# Altium schematic symbol library SCH-46368_A3_Library.SchLib: 79 symbols
Pins are listed as number, name and electrical type; pins without a type are passive.

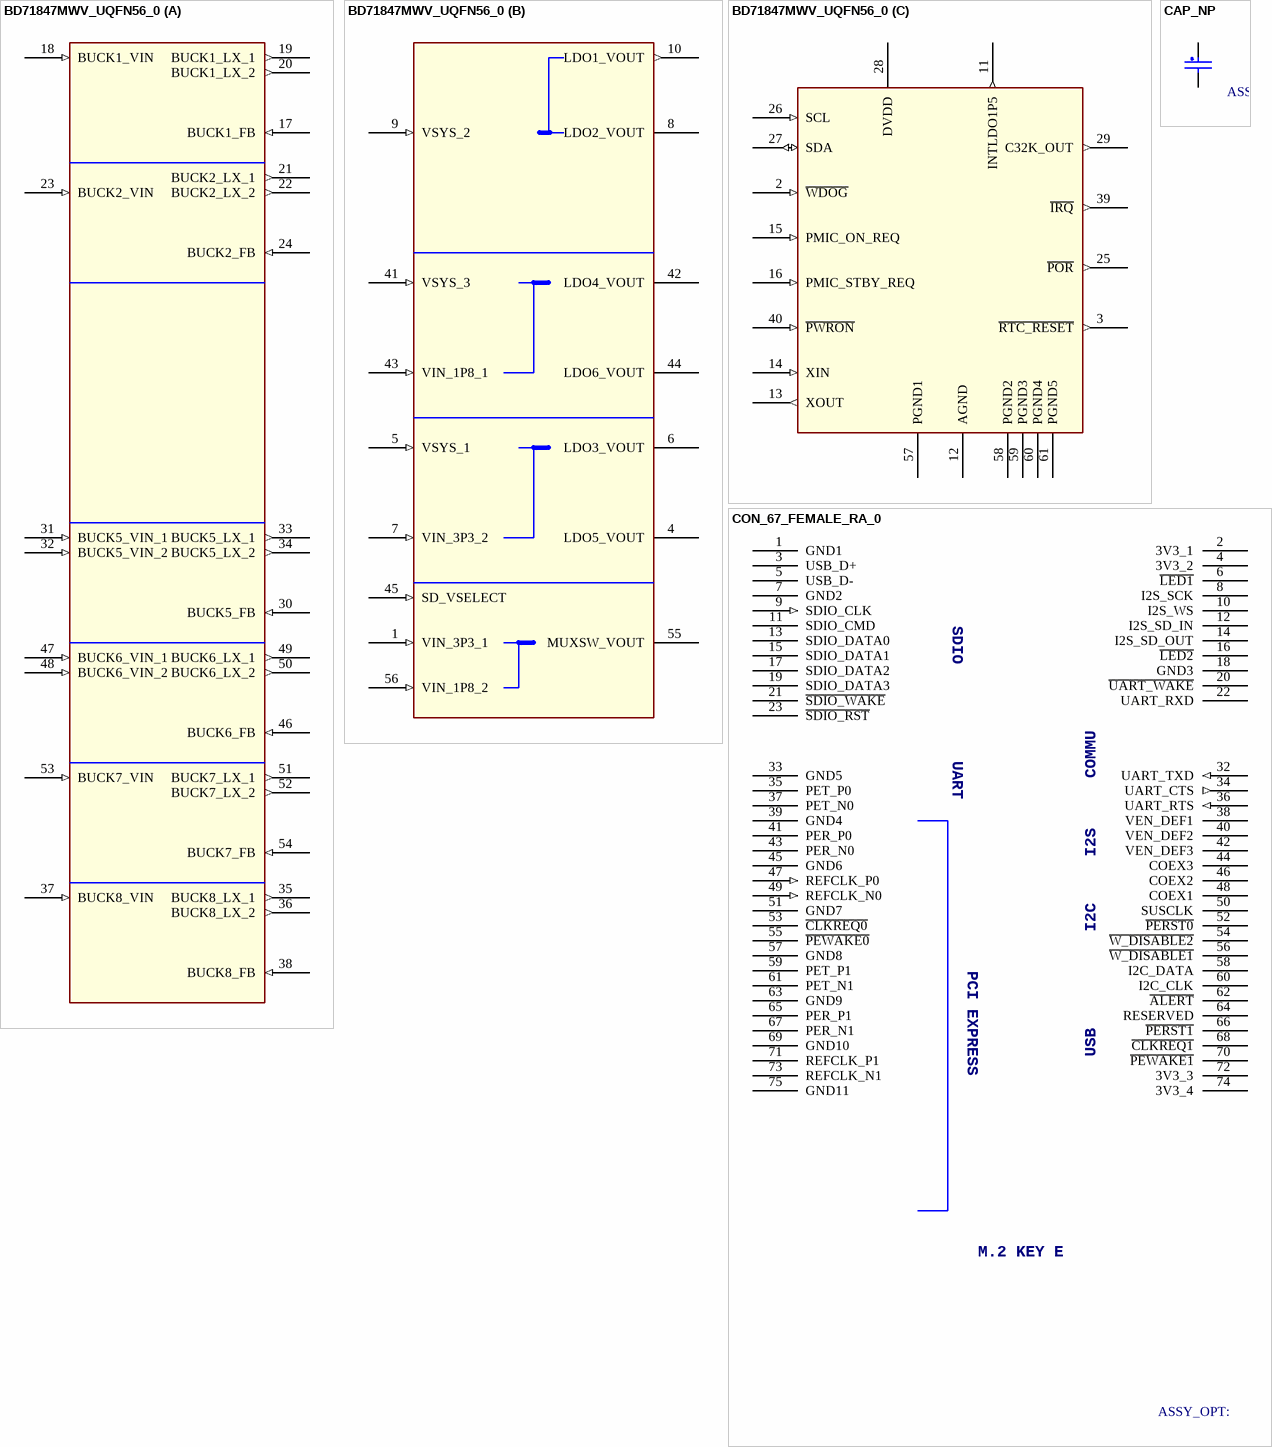
[diagram p0: symbols BD71847MWV_UQFN56_0 to CON_67_FEMALE_RA_0]

## BD71847MWV_UQFN56_0
designator U?
CLASS: IC
footprint BD71837MWV
part A pins: 17 BUCK1_FB (in), 18 BUCK1_VIN (in), 19 BUCK1_LX_1 (out), 20 BUCK1_LX_2 (out), 21 BUCK2_LX_1 (out), 22 BUCK2_LX_2 (out), 23 BUCK2_VIN (in), 24 BUCK2_FB (in), 30 BUCK5_FB (in), 31 BUCK5_VIN_1 (in), 32 BUCK5_VIN_2 (in), 33 BUCK5_LX_1 (out), 34 BUCK5_LX_2 (out), 35 BUCK8_LX_1 (out), 36 BUCK8_LX_2 (out), 37 BUCK8_VIN (in), 38 BUCK8_FB (in), 46 BUCK6_FB (in), 47 BUCK6_VIN_1 (in), 48 BUCK6_VIN_2 (in), 49 BUCK6_LX_1 (out), 50 BUCK6_LX_2 (out), 51 BUCK7_LX_1 (out), 52 BUCK7_LX_2 (out), 53 BUCK7_VIN (in), 54 BUCK7_FB (in)
part B pins: 1 VIN_3P3_1 (in), 4 LDO5_VOUT (power), 5 VSYS_1 (in), 6 LDO3_VOUT (power), 7 VIN_3P3_2 (in), 8 LDO2_VOUT (power), 9 VSYS_2 (in), 10 LDO1_VOUT (out), 41 VSYS_3 (in), 42 LDO4_VOUT (power), 43 VIN_1P8_1 (in), 44 LDO6_VOUT (power), 45 SD_VSELECT (in), 55 MUXSW_VOUT (power), 56 VIN_1P8_2 (in)
part C pins: 2 ~{WDOG} (in), 3 ~{RTC_RESET} (out), 11 INTLDO1P5 (out), 12 AGND (power), 13 XOUT (out), 14 XIN (in), 15 PMIC_ON_REQ (in), 16 PMIC_STBY_REQ (in), 25 ~{POR} (out), 26 SCL (in), 27 SDA (io), 28 DVDD (power), 29 C32K_OUT (out), 39 ~{IRQ} (out), 40 ~{PWRON} (in), 57 PGND1 (power), 58 PGND2 (power), 59 PGND3 (power), 60 PGND4 (power), 61 PGND5 (power)

## CAP_NP
designator C?
CLASS: DISCRETE
pins: 1, 2

## CON_67_FEMALE_RA_0
designator J?
CLASS: IO
pins: 1 GND1 (power), 2 3V3_1 (power), 3 USB_D+, 4 3V3_2 (power), 5 USB_D-, 6 ~{LED1}, 7 GND2 (power), 8 I2S_SCK, 9 SDIO_CLK (in), 10 I2S_WS, 11 SDIO_CMD, 12 I2S_SD_IN, 13 SDIO_DATA0, 14 I2S_SD_OUT, 15 SDIO_DATA1, 16 ~{LED2}, 17 SDIO_DATA2, 18 GND3 (power), 19 SDIO_DATA3, 20 ~{UART_WAKE}, 21 ~{SDIO_WAKE}, 22 UART_RXD, 23 ~{SDIO_RST}, 32 UART_TXD (in), 33 GND5 (power), 34 UART_CTS (out), 35 PET_P0, 36 UART_RTS (in), 37 PET_N0, 38 VEN_DEF1, 39 GND4 (power), 40 VEN_DEF2, 41 PER_P0, 42 VEN_DEF3, 43 PER_N0, 44 COEX3, 45 GND6 (power), 46 COEX2, 47 REFCLK_P0 (in), 48 COEX1, 49 REFCLK_N0 (in), 50 SUSCLK, 51 GND7 (power), 52 ~{PERST0}, 53 ~{CLKREQ0}, 54 ~{W_DISABLE2}, 55 ~{PEWAKE0}, 56 ~{W_DISABLE1}, 57 GND8 (power), 58 I2C_DATA, 59 PET_P1, 60 I2C_CLK, 61 PET_N1, 62 ~{ALERT}, 63 GND9 (power), 64 RESERVED, 65 PER_P1, 66 ~{PERST1}, 67 PER_N1, 68 ~{CLKREQ1}, 69 GND10 (power), 70 ~{PEWAKE1}, 71 REFCLK_P1, 72 3V3_3 (power), 73 REFCLK_N1, 74 3V3_4 (power), 75 GND11 (power)
text: SDIO; UART; COMMU; I2S; I2C; PCI EXPRESS; USB; M.2 KEY E

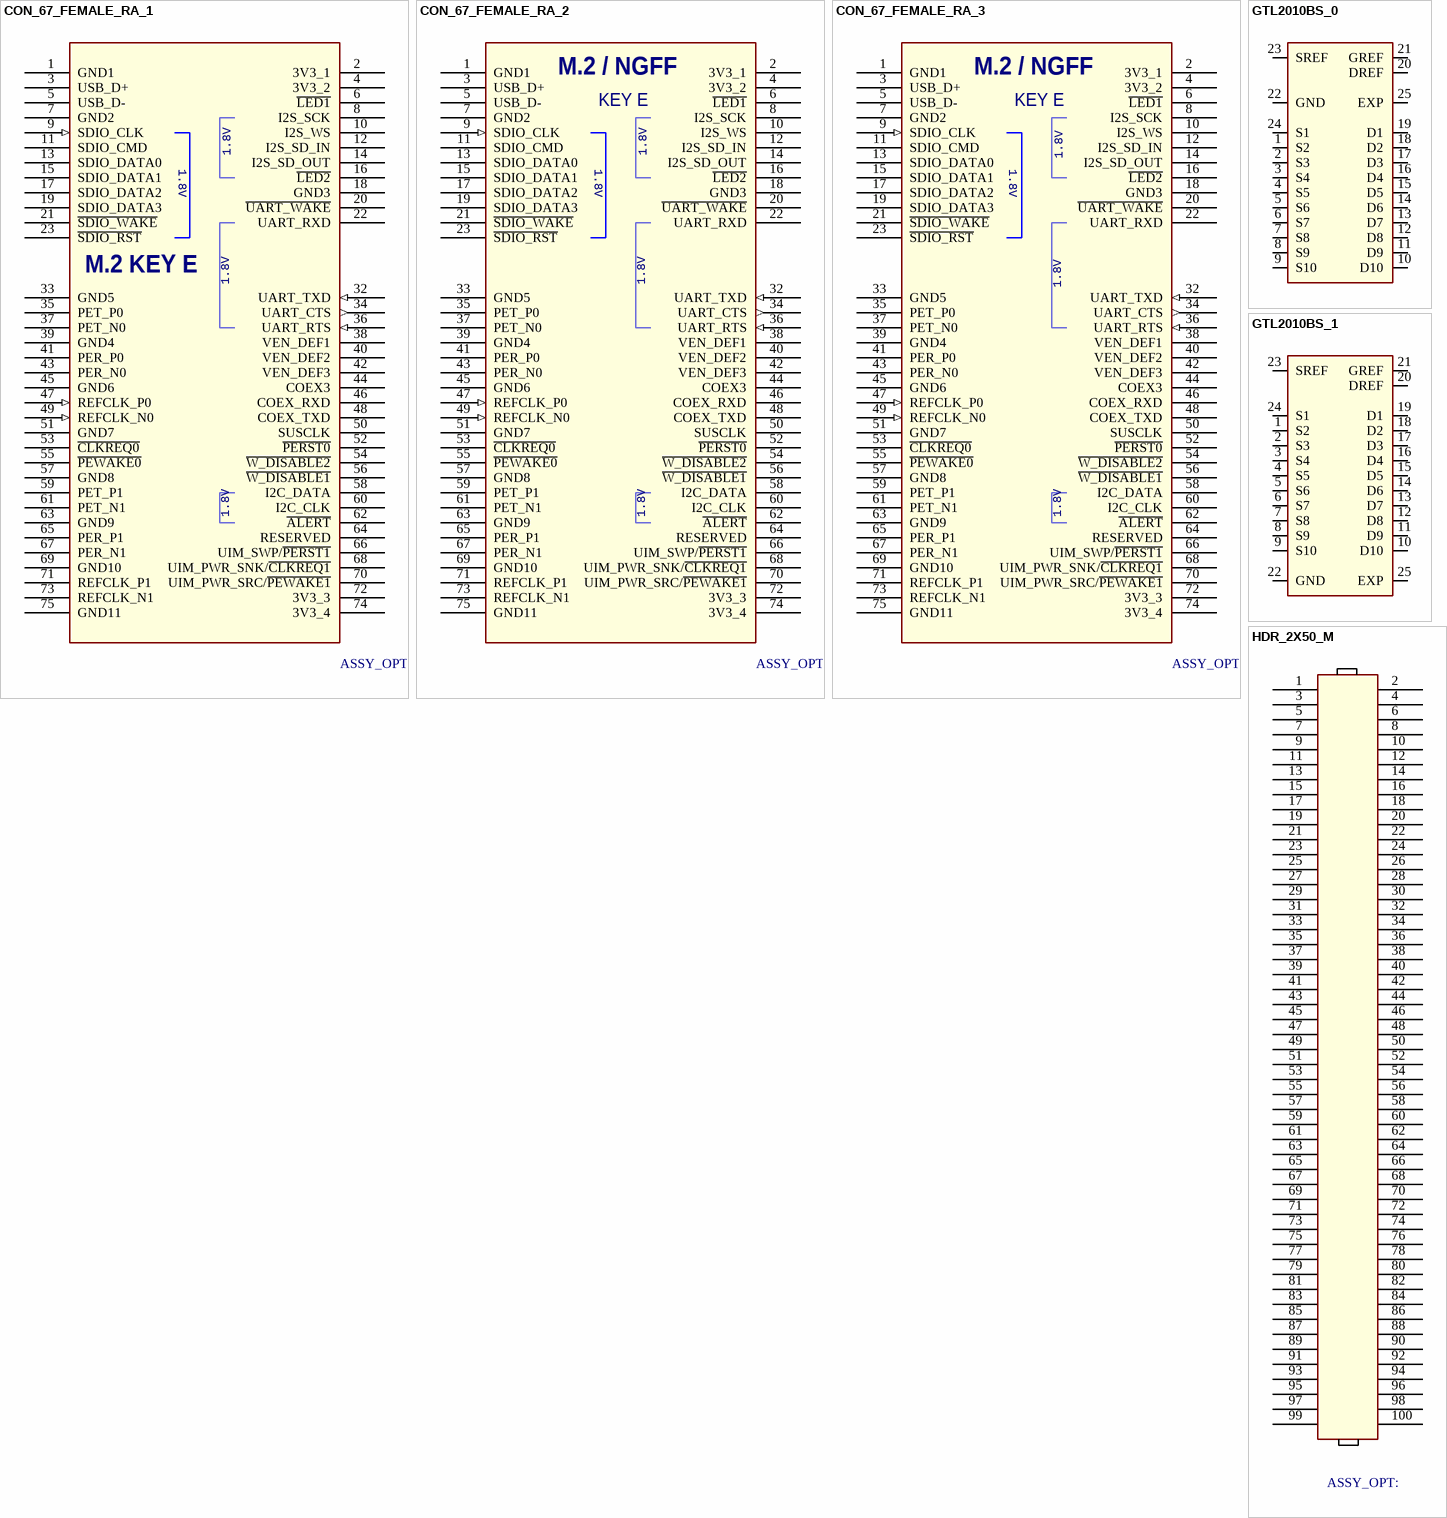
[diagram p1: symbols CON_67_FEMALE_RA_1 to HDR_2X50_M]

## CON_67_FEMALE_RA_1
designator J?
CLASS: IO
pins: 1 GND1 (power), 2 3V3_1 (power), 3 USB_D+, 4 3V3_2 (power), 5 USB_D-, 6 ~{LED1}, 7 GND2 (power), 8 I2S_SCK, 9 SDIO_CLK (in), 10 I2S_WS, 11 SDIO_CMD, 12 I2S_SD_IN, 13 SDIO_DATA0, 14 I2S_SD_OUT, 15 SDIO_DATA1, 16 ~{LED2}, 17 SDIO_DATA2, 18 GND3 (power), 19 SDIO_DATA3, 20 ~{UART_WAKE}, 21 ~{SDIO_WAKE}, 22 UART_RXD, 23 ~{SDIO_RST}, 32 UART_TXD (in), 33 GND5 (power), 34 UART_CTS (out), 35 PET_P0, 36 UART_RTS (in), 37 PET_N0, 38 VEN_DEF1, 39 GND4 (power), 40 VEN_DEF2, 41 PER_P0, 42 VEN_DEF3, 43 PER_N0, 44 COEX3, 45 GND6 (power), 46 COEX_RXD, 47 REFCLK_P0 (in), 48 COEX_TXD, 49 REFCLK_N0 (in), 50 SUSCLK, 51 GND7 (power), 52 ~{PERST0}, 53 ~{CLKREQ0}, 54 ~{W_DISABLE2}, 55 ~{PEWAKE0}, 56 ~{W_DISABLE1}, 57 GND8 (power), 58 I2C_DATA, 59 PET_P1, 60 I2C_CLK, 61 PET_N1, 62 ~{ALERT}, 63 GND9 (power), 64 RESERVED, 65 PER_P1, 66 UIM_SWP/~{PERST1}, 67 PER_N1, 68 UIM_PWR_SNK/~{CLKREQ1}, 69 GND10 (power), 70 UIM_PWR_SRC/~{PEWAKE1}, 71 REFCLK_P1, 72 3V3_3 (power), 73 REFCLK_N1, 74 3V3_4 (power), 75 GND11 (power)
text: 1.8V; M.2 KEY E

## CON_67_FEMALE_RA_2
designator J?
CLASS: IO
pins: 1 GND1 (power), 2 3V3_1 (power), 3 USB_D+, 4 3V3_2 (power), 5 USB_D-, 6 ~{LED1}, 7 GND2 (power), 8 I2S_SCK, 9 SDIO_CLK (in), 10 I2S_WS, 11 SDIO_CMD, 12 I2S_SD_IN, 13 SDIO_DATA0, 14 I2S_SD_OUT, 15 SDIO_DATA1, 16 ~{LED2}, 17 SDIO_DATA2, 18 GND3 (power), 19 SDIO_DATA3, 20 ~{UART_WAKE}, 21 ~{SDIO_WAKE}, 22 UART_RXD, 23 ~{SDIO_RST}, 32 UART_TXD (in), 33 GND5 (power), 34 UART_CTS (out), 35 PET_P0, 36 UART_RTS (in), 37 PET_N0, 38 VEN_DEF1, 39 GND4 (power), 40 VEN_DEF2, 41 PER_P0, 42 VEN_DEF3, 43 PER_N0, 44 COEX3, 45 GND6 (power), 46 COEX_RXD, 47 REFCLK_P0 (in), 48 COEX_TXD, 49 REFCLK_N0 (in), 50 SUSCLK, 51 GND7 (power), 52 ~{PERST0}, 53 ~{CLKREQ0}, 54 ~{W_DISABLE2}, 55 ~{PEWAKE0}, 56 ~{W_DISABLE1}, 57 GND8 (power), 58 I2C_DATA, 59 PET_P1, 60 I2C_CLK, 61 PET_N1, 62 ~{ALERT}, 63 GND9 (power), 64 RESERVED, 65 PER_P1, 66 UIM_SWP/~{PERST1}, 67 PER_N1, 68 UIM_PWR_SNK/~{CLKREQ1}, 69 GND10 (power), 70 UIM_PWR_SRC/~{PEWAKE1}, 71 REFCLK_P1, 72 3V3_3 (power), 73 REFCLK_N1, 74 3V3_4 (power), 75 GND11 (power)
text: M.2 / NGFF; KEY E; 1.8V

## CON_67_FEMALE_RA_3
designator J?
CLASS: IO
pins: 1 GND1 (power), 2 3V3_1 (power), 3 USB_D+, 4 3V3_2 (power), 5 USB_D-, 6 ~{LED1}, 7 GND2 (power), 8 I2S_SCK, 9 SDIO_CLK (in), 10 I2S_WS, 11 SDIO_CMD, 12 I2S_SD_IN, 13 SDIO_DATA0, 14 I2S_SD_OUT, 15 SDIO_DATA1, 16 ~{LED2}, 17 SDIO_DATA2, 18 GND3 (power), 19 SDIO_DATA3, 20 ~{UART_WAKE}, 21 ~{SDIO_WAKE}, 22 UART_RXD, 23 ~{SDIO_RST}, 32 UART_TXD (in), 33 GND5 (power), 34 UART_CTS (out), 35 PET_P0, 36 UART_RTS (in), 37 PET_N0, 38 VEN_DEF1, 39 GND4 (power), 40 VEN_DEF2, 41 PER_P0, 42 VEN_DEF3, 43 PER_N0, 44 COEX3, 45 GND6 (power), 46 COEX_RXD, 47 REFCLK_P0 (in), 48 COEX_TXD, 49 REFCLK_N0 (in), 50 SUSCLK, 51 GND7 (power), 52 ~{PERST0}, 53 ~{CLKREQ0}, 54 ~{W_DISABLE2}, 55 ~{PEWAKE0}, 56 ~{W_DISABLE1}, 57 GND8 (power), 58 I2C_DATA, 59 PET_P1, 60 I2C_CLK, 61 PET_N1, 62 ~{ALERT}, 63 GND9 (power), 64 RESERVED, 65 PER_P1, 66 UIM_SWP/~{PERST1}, 67 PER_N1, 68 UIM_PWR_SNK/~{CLKREQ1}, 69 GND10 (power), 70 UIM_PWR_SRC/~{PEWAKE1}, 71 REFCLK_P1, 72 3V3_3 (power), 73 REFCLK_N1, 74 3V3_4 (power), 75 GND11 (power)
text: M.2 / NGFF; KEY E; 1.8V

## GTL2010BS_0
designator U?
CLASS: IC
pins: 1 S2 (io), 2 S3 (io), 3 S4 (io), 4 S5 (io), 5 S6 (io), 6 S7 (io), 7 S8 (io), 8 S9 (io), 9 S10 (io), 10 D10 (io), 11 D9 (io), 12 D8 (io), 13 D7 (io), 14 D6 (io), 15 D5 (io), 16 D4 (io), 17 D3 (io), 18 D2 (io), 19 D1 (io), 20 DREF, 21 GREF, 22 GND (power), 23 SREF, 24 S1 (io), 25 EXP (power)

## GTL2010BS_1
designator U?
CLASS: IC
pins: 1 S2 (io), 2 S3 (io), 3 S4 (io), 4 S5 (io), 5 S6 (io), 6 S7 (io), 7 S8 (io), 8 S9 (io), 9 S10 (io), 10 D10 (io), 11 D9 (io), 12 D8 (io), 13 D7 (io), 14 D6 (io), 15 D5 (io), 16 D4 (io), 17 D3 (io), 18 D2 (io), 19 D1 (io), 20 DREF, 21 GREF, 22 GND (power), 23 SREF, 24 S1 (io), 25 EXP (power)

## HDR_2X50_M
designator J?
CLASS: IO
pins: 1, 2, 3, 4, 5, 6, 7, 8, 9, 10, 11, 12, 13, 14, 15, 16, 17, 18, 19, 20, 21, 22, 23, 24, 25, 26, 27, 28, 29, 30, 31, 32, 33, 34, 35, 36, 37, 38, 39, 40, 41, 42, 43, 44, 45, 46, 47, 48, 49, 50, 51, 52, 53, 54, 55, 56, 57, 58, 59, 60, 61, 62, 63, 64, 65, 66, 67, 68, 69, 70, 71, 72, 73, 74, 75, 76, 77, 78, 79, 80, 81, 82, 83, 84, 85, 86, 87, 88, 89, 90, 91, 92, 93, 94, 95, 96, 97, 98, 99, 100

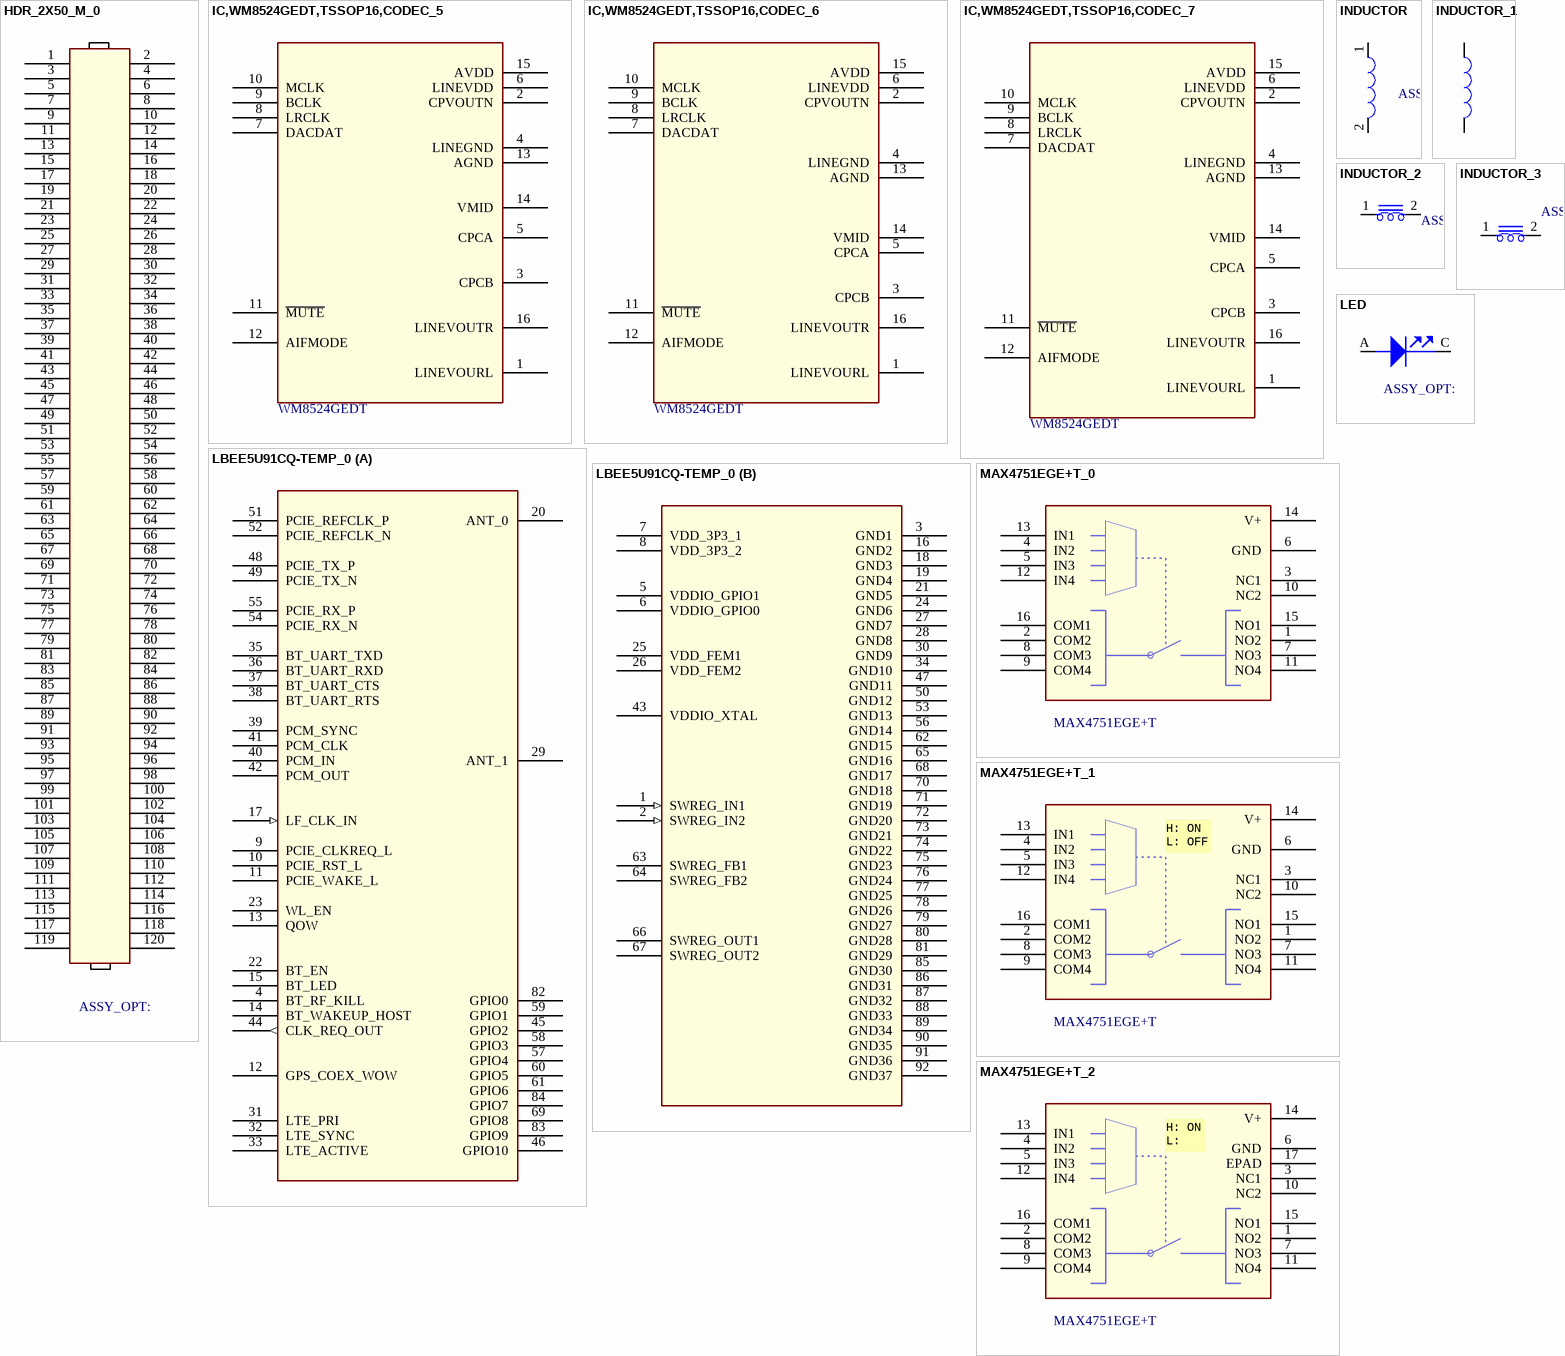
[diagram p2: symbols HDR_2X50_M_0 to MAX4751EGE+T_2]

## HDR_2X50_M_0
designator J?
CLASS: IO
pins: 1, 2, 3, 4, 5, 6, 7, 8, 9, 10, 11, 12, 13, 14, 15, 16, 17, 18, 19, 20, 21, 22, 23, 24, 25, 26, 27, 28, 29, 30, 31, 32, 33, 34, 35, 36, 37, 38, 39, 40, 41, 42, 43, 44, 45, 46, 47, 48, 49, 50, 51, 52, 53, 54, 55, 56, 57, 58, 59, 60, 61, 62, 63, 64, 65, 66, 67, 68, 69, 70, 71, 72, 73, 74, 75, 76, 77, 78, 79, 80, 81, 82, 83, 84, 85, 86, 87, 88, 89, 90, 91, 92, 93, 94, 95, 96, 97, 98, 99, 100, 101, 102, 103, 104, 105, 106, 107, 108, 109, 110, 111, 112, 113, 114, 115, 116, 117, 118, 119, 120

## IC,WM8524GEDT,TSSOP16,CODEC_5
designator U?, comment WM8524GEDT
IC,WM8524GEDT,TSSOP16,24-bit 192kHz Stereo DAC; Vendor: Wolfson; VPN: WM8524GEDT
footprint TSSOP16
pins: 1 LINEVOURL, 2 CPVOUTN, 3 CPCB, 4 LINEGND, 5 CPCA, 6 LINEVDD, 7 DACDAT, 8 LRCLK, 9 BCLK, 10 MCLK, 11 ~{MUTE}, 12 AIFMODE, 13 AGND, 14 VMID, 15 AVDD, 16 LINEVOUTR

## IC,WM8524GEDT,TSSOP16,CODEC_6
designator U?, comment WM8524GEDT
IC,WM8524GEDT,TSSOP16,24-bit 192kHz Stereo DAC; Vendor: Wolfson; VPN: WM8524GEDT
footprint TSSOP16
pins: 1 LINEVOURL, 2 CPVOUTN, 3 CPCB, 4 LINEGND, 5 CPCA, 6 LINEVDD, 7 DACDAT, 8 LRCLK, 9 BCLK, 10 MCLK, 11 ~{MUTE}, 12 AIFMODE, 13 AGND, 14 VMID, 15 AVDD, 16 LINEVOUTR

## IC,WM8524GEDT,TSSOP16,CODEC_7
designator U?, comment WM8524GEDT
IC,WM8524GEDT,TSSOP16,24-bit 192kHz Stereo DAC; Vendor: Wolfson; VPN: WM8524GEDT
footprint TSSOP16
pins: 1 LINEVOURL, 2 CPVOUTN, 3 CPCB, 4 LINEGND, 5 CPCA, 6 LINEVDD, 7 DACDAT, 8 LRCLK, 9 BCLK, 10 MCLK, 11 ~{MUTE}, 12 AIFMODE, 13 AGND, 14 VMID, 15 AVDD, 16 LINEVOUTR

## INDUCTOR
designator L?
CLASS: DISCRETE
pins: 1, 2

## INDUCTOR_1
designator L?
CLASS: DISCRETE
pins: 1, 2

## INDUCTOR_2
designator L?
CLASS: DISCRETE
pins: 1, 2

## INDUCTOR_3
designator L?
CLASS: DISCRETE
pins: 1, 2

## LBEE5U91CQ-TEMP_0
designator U?
SWAP_INFO: (S1+S2); SPLIT_INST: TRUE
footprint SiP92_11x8p8mm
part A pins: 4 BT_RF_KILL, 9 PCIE_CLKREQ_L, 10 PCIE_RST_L, 11 PCIE_WAKE_L, 12 GPS_COEX_WOW, 13 QOW, 14 BT_WAKEUP_HOST, 15 BT_LED, 17 LF_CLK_IN (in), 20 ANT_0, 22 BT_EN, 23 WL_EN, 29 ANT_1, 31 LTE_PRI, 32 LTE_SYNC, 33 LTE_ACTIVE, 35 BT_UART_TXD, 36 BT_UART_RXD, 37 BT_UART_CTS, 38 BT_UART_RTS, 39 PCM_SYNC, 40 PCM_IN, 41 PCM_CLK, 42 PCM_OUT, 44 CLK_REQ_OUT (out), 45 GPIO2, 46 GPIO10, 48 PCIE_TX_P, 49 PCIE_TX_N, 51 PCIE_REFCLK_P, 52 PCIE_REFCLK_N, 54 PCIE_RX_N, 55 PCIE_RX_P, 57 GPIO4, 58 GPIO3, 59 GPIO1, 60 GPIO5, 61 GPIO6, 69 GPIO8, 82 GPIO0, 83 GPIO9, 84 GPIO7
part B pins: 1 SWREG_IN1 (in), 2 SWREG_IN2 (in), 3 GND1 (power), 5 VDDIO_GPIO1 (power), 6 VDDIO_GPIO0 (power), 7 VDD_3P3_1 (power), 8 VDD_3P3_2 (power), 16 GND2 (power), 18 GND3 (power), 19 GND4 (power), 21 GND5 (power), 24 GND6 (power), 25 VDD_FEM1 (power), 26 VDD_FEM2 (power), 27 GND7 (power), 28 GND8 (power), 30 GND9 (power), 34 GND10 (power), 43 VDDIO_XTAL (power), 47 GND11 (power), 50 GND12 (power), 53 GND13 (power), 56 GND14 (power), 62 GND15 (power), 63 SWREG_FB1, 64 SWREG_FB2, 65 GND16 (power), 66 SWREG_OUT1, 67 SWREG_OUT2, 68 GND17 (power), 70 GND18 (power), 71 GND19 (power), 72 GND20 (power), 73 GND21 (power), 74 GND22 (power), 75 GND23 (power), 76 GND24 (power), 77 GND25 (power), 78 GND26 (power), 79 GND27 (power), 80 GND28 (power), 81 GND29 (power), 85 GND30 (power), 86 GND31 (power), 87 GND32 (power), 88 GND33 (power), 89 GND34 (power), 90 GND35 (power), 91 GND36 (power), 92 GND37 (power)

## LED
designator D?
CLASS: IC
pins: A ANODE, C CATHODE

## MAX4751EGE+T_0
designator U?, comment MAX4751EGE+T
footprint qfn16_0p5_3x3mm
pins: 1 NO2, 2 COM2, 3 NC1, 4 IN2, 5 IN3, 6 GND, 7 NO3, 8 COM3, 9 COM4, 10 NC2, 11 NO4, 12 IN4, 13 IN1, 14 V+, 15 NO1, 16 COM1

## MAX4751EGE+T_1
designator U?, comment MAX4751EGE+T
footprint qfn16_0p5_3x3mm
pins: 1 NO2, 2 COM2, 3 NC1, 4 IN2, 5 IN3, 6 GND, 7 NO3, 8 COM3, 9 COM4, 10 NC2, 11 NO4, 12 IN4, 13 IN1, 14 V+, 15 NO1, 16 COM1
text: H: ON / L: OFF

## MAX4751EGE+T_2
designator U?, comment MAX4751EGE+T
footprint qfn16_0p5_3x3mm
pins: 1 NO2, 2 COM2, 3 NC1, 4 IN2, 5 IN3, 6 GND, 7 NO3, 8 COM3, 9 COM4, 10 NC2, 11 NO4, 12 IN4, 13 IN1, 14 V+, 15 NO1, 16 COM1, 17 EPAD
text: H: ON / L: OFF

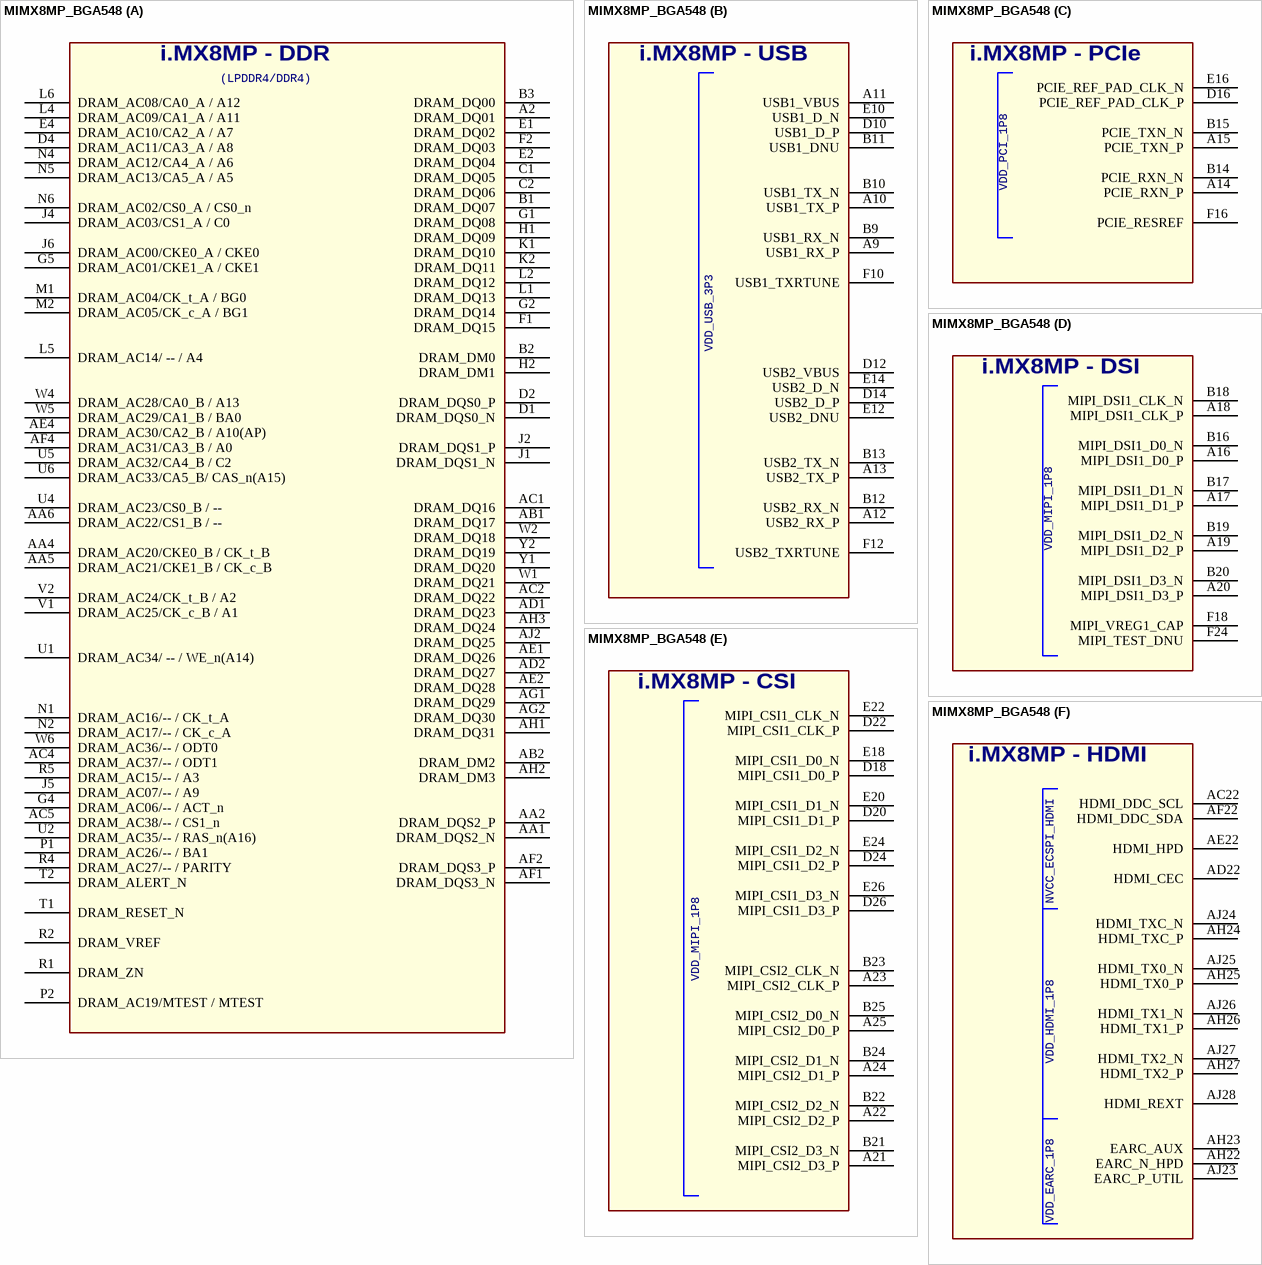
[diagram p3: symbol MIMX8MP_BGA548]

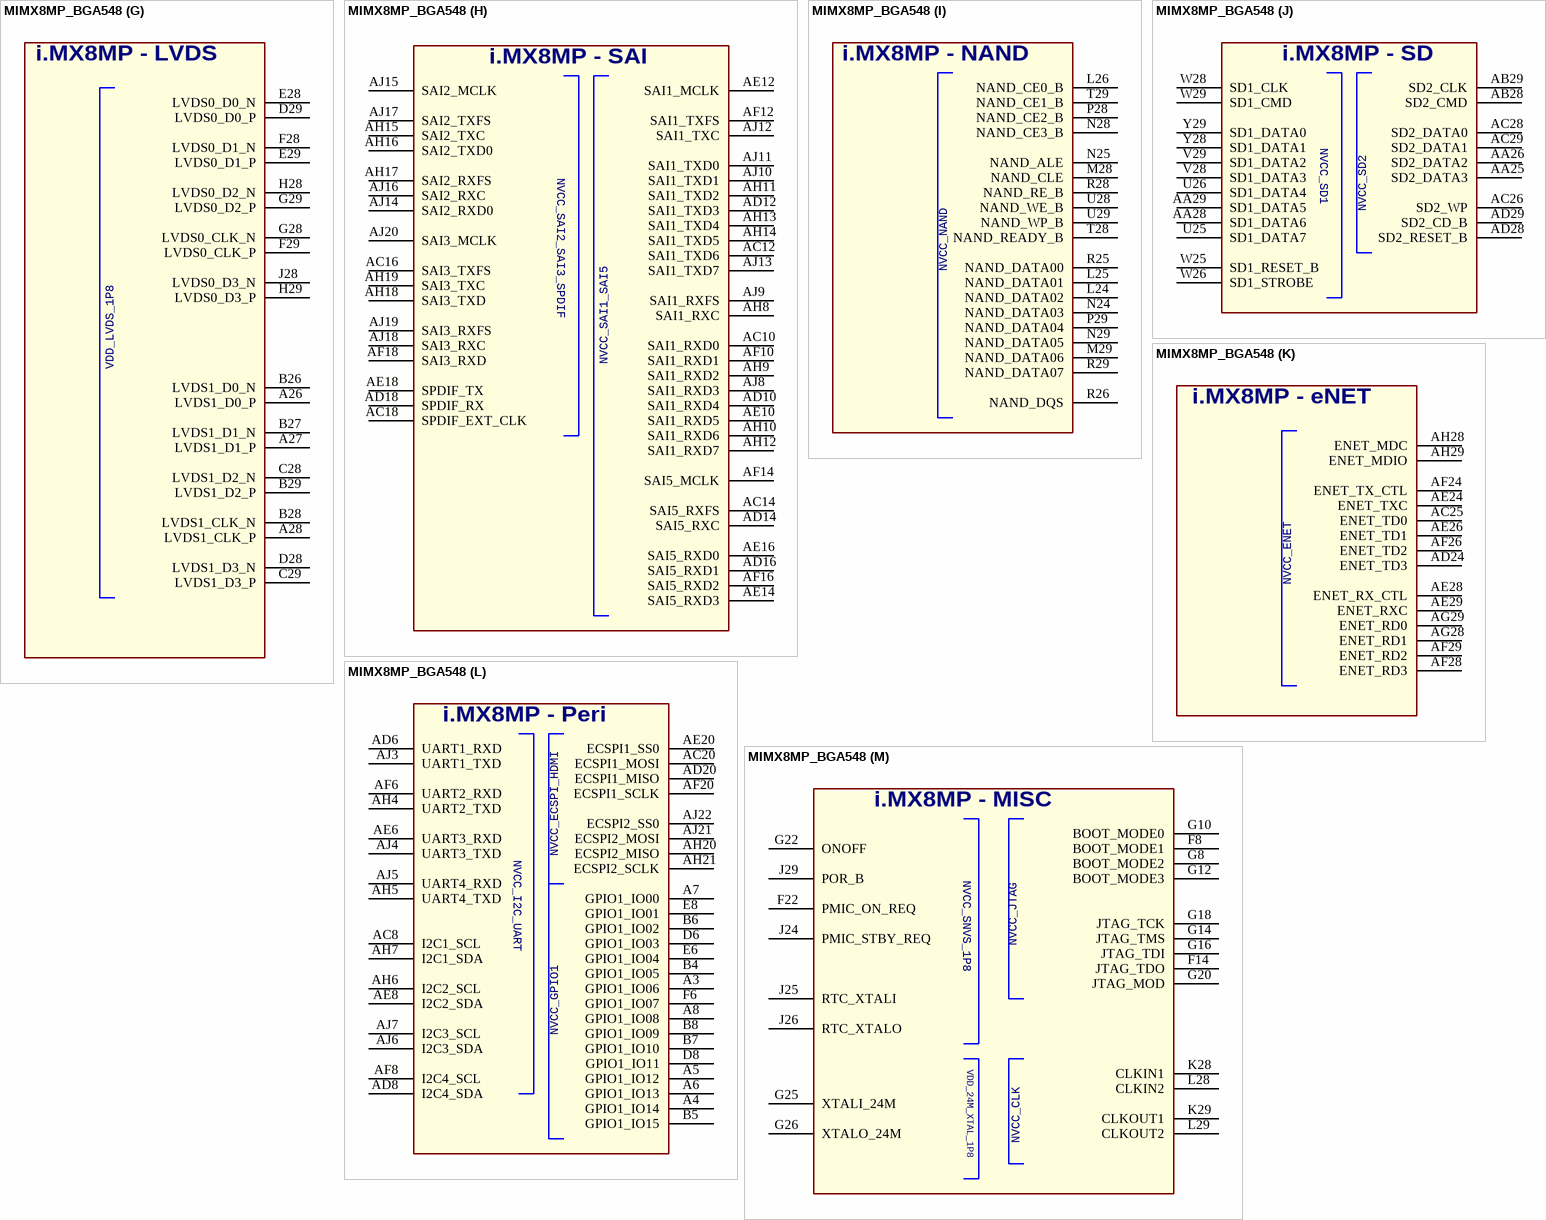
[diagram p4: symbol MIMX8MP_BGA548]

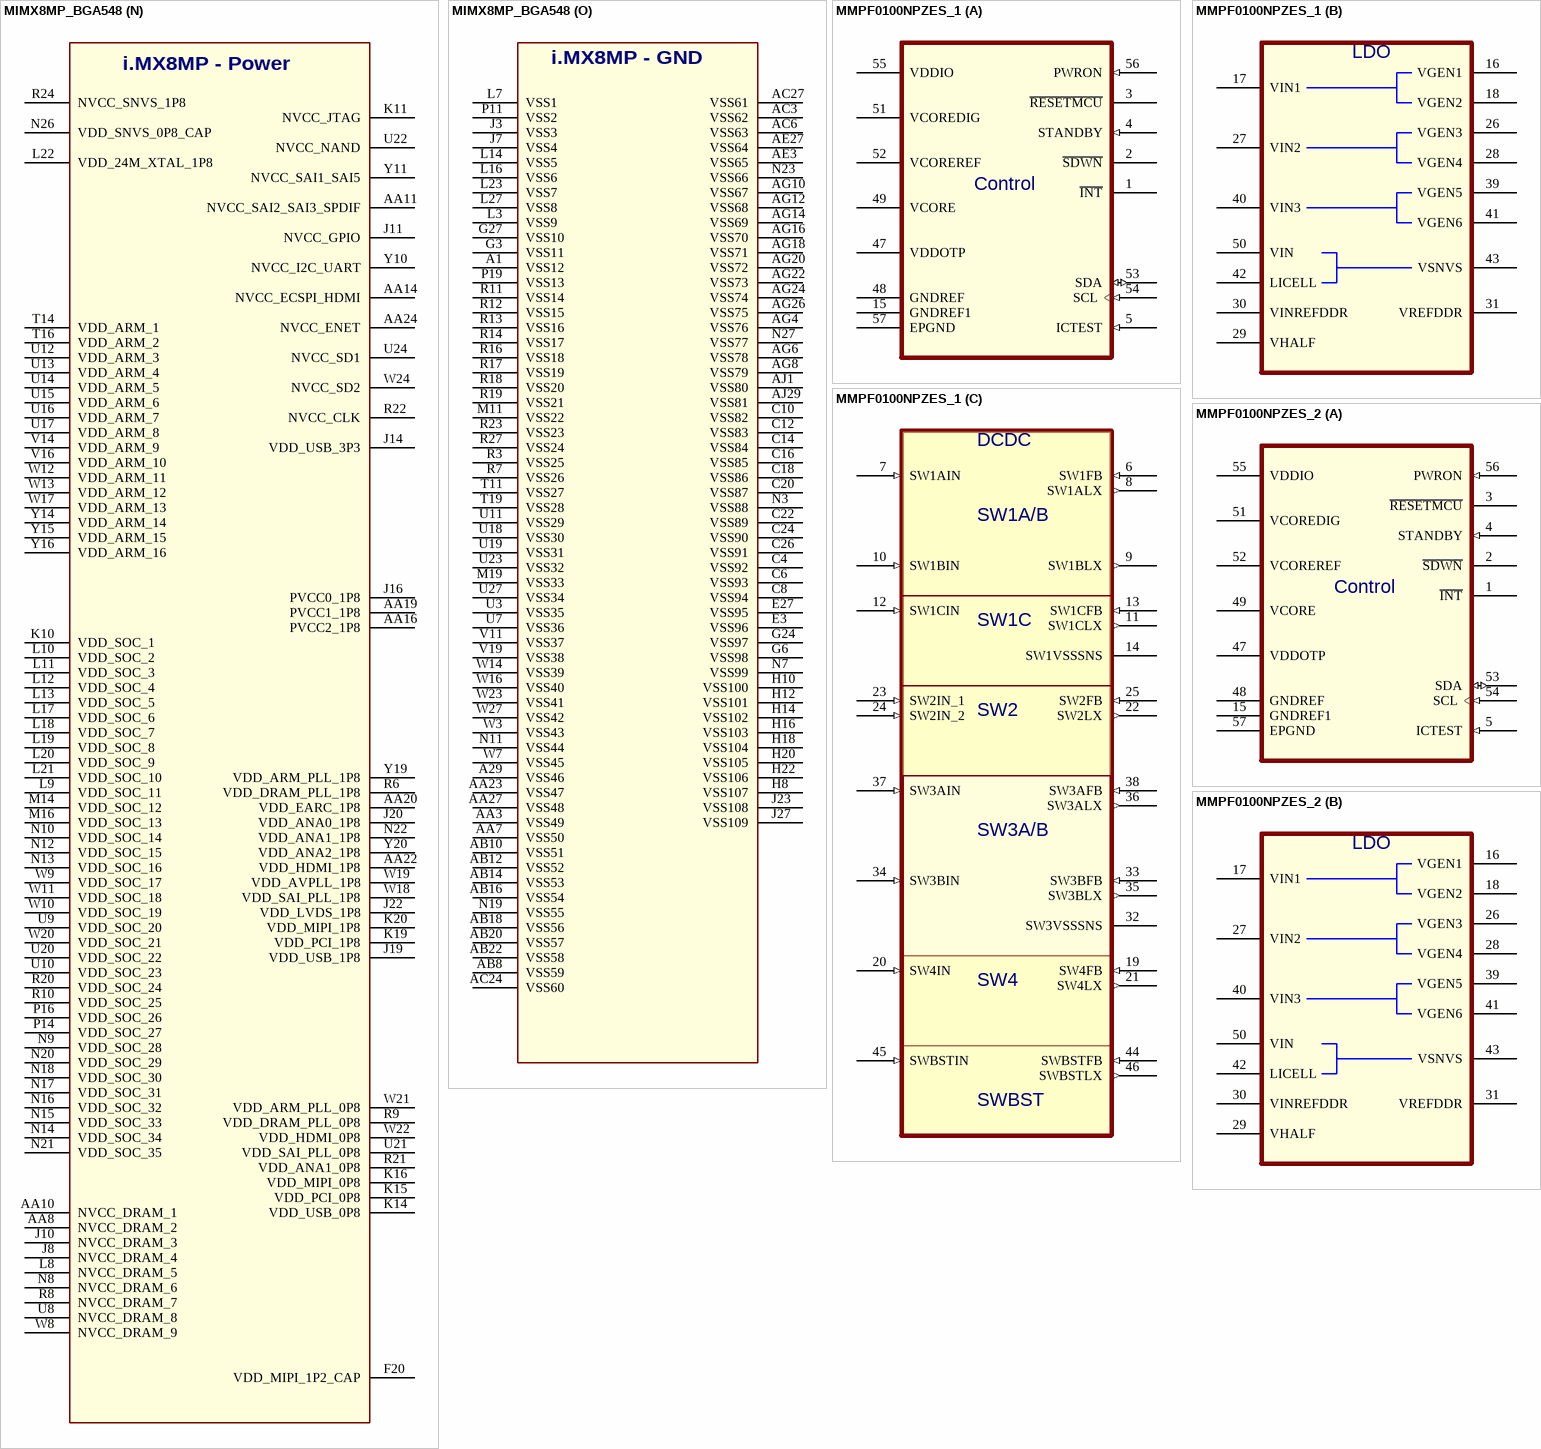
[diagram p5: symbols MIMX8MP_BGA548 to MMPF0100NPZES_2]

## MIMX8MP_BGA548
designator U?
SPLIT_INST: TRUE; CLASS: IC
footprint BGA_M865S_0P5_15X15-BMS
part A pins: A2 DRAM_DQ01, AA1 DRAM_DQS2_N, AA2 DRAM_DQS2_P, AA4 DRAM_AC20/CKE0_B / CK_t_B, AA5 DRAM_AC21/CKE1_B / CK_c_B, AA6 DRAM_AC22/CS1_B / --, AB1 DRAM_DQ17, AB2 DRAM_DM2, AC1 DRAM_DQ16, AC2 DRAM_DQ22, AC4 DRAM_AC37/-- / ODT1, AC5 DRAM_AC38/-- / CS1_n, AD1 DRAM_DQ23, AD2 DRAM_DQ27, AE1 DRAM_DQ26, AE2 DRAM_DQ28, AE4 DRAM_AC30/CA2_B / A10(AP), AF1 DRAM_DQS3_N, AF2 DRAM_DQS3_P, AF4 DRAM_AC31/CA3_B / A0, AG1 DRAM_DQ29, AG2 DRAM_DQ30, AH1 DRAM_DQ31, AH2 DRAM_DM3, AH3 DRAM_DQ24, AJ2 DRAM_DQ25, B1 DRAM_DQ07, B2 DRAM_DM0, B3 DRAM_DQ00, C1 DRAM_DQ05, C2 DRAM_DQ06, D1 DRAM_DQS0_N, D2 DRAM_DQS0_P, D4 DRAM_AC11/CA3_A / A8, E1 DRAM_DQ02, E2 DRAM_DQ04, E4 DRAM_AC10/CA2_A / A7, F1 DRAM_DQ15, F2 DRAM_DQ03, G1 DRAM_DQ08, G2 DRAM_DQ14, G4 DRAM_AC06/-- / ACT_n, G5 DRAM_AC01/CKE1_A / CKE1, H1 DRAM_DQ09, H2 DRAM_DM1, J1 DRAM_DQS1_N, J2 DRAM_DQS1_P, J4 DRAM_AC03/CS1_A / C0, J5 DRAM_AC07/-- / A9, J6 DRAM_AC00/CKE0_A / CKE0, K1 DRAM_DQ10, K2 DRAM_DQ11, L1 DRAM_DQ13, L2 DRAM_DQ12, L4 DRAM_AC09/CA1_A / A11, L5 DRAM_AC14/ -- / A4, L6 DRAM_AC08/CA0_A / A12, M1 DRAM_AC04/CK_t_A / BG0, M2 DRAM_AC05/CK_c_A / BG1, N1 DRAM_AC16/-- / CK_t_A, N2 DRAM_AC17/-- / CK_c_A, N4 DRAM_AC12/CA4_A / A6, N5 DRAM_AC13/CA5_A / A5, N6 DRAM_AC02/CS0_A / CS0_n, P1 DRAM_AC26/-- / BA1, P2 DRAM_AC19/MTEST / MTEST, R1 DRAM_ZN, R2 DRAM_VREF, R4 DRAM_AC27/-- / PARITY, R5 DRAM_AC15/-- / A3, T1 DRAM_RESET_N, T2 DRAM_ALERT_N, U1 DRAM_AC34/ -- / WE_n(A14), U2 DRAM_AC35/-- / RAS_n(A16), U4 DRAM_AC23/CS0_B / --, U5 DRAM_AC32/CA4_B / C2, U6 DRAM_AC33/CA5_B/ CAS_n(A15), V1 DRAM_AC25/CK_c_B / A1, V2 DRAM_AC24/CK_t_B / A2, W1 DRAM_DQ21, W2 DRAM_DQ18, W4 DRAM_AC28/CA0_B / A13, W5 DRAM_AC29/CA1_B / BA0, W6 DRAM_AC36/-- / ODT0, Y1 DRAM_DQ20, Y2 DRAM_DQ19
part B pins: A9 USB1_RX_P, A10 USB1_TX_P, A11 USB1_VBUS, A12 USB2_RX_P, A13 USB2_TX_P, B9 USB1_RX_N, B10 USB1_TX_N, B11 USB1_DNU, B12 USB2_RX_N, B13 USB2_TX_N, D10 USB1_D_P, D12 USB2_VBUS, D14 USB2_D_P, E10 USB1_D_N, E12 USB2_DNU, E14 USB2_D_N, F10 USB1_TXRTUNE, F12 USB2_TXRTUNE
part C pins: A14 PCIE_RXN_P, A15 PCIE_TXN_P, B14 PCIE_RXN_N, B15 PCIE_TXN_N, D16 PCIE_REF_PAD_CLK_P, E16 PCIE_REF_PAD_CLK_N, F16 PCIE_RESREF
part D pins: A16 MIPI_DSI1_D0_P, A17 MIPI_DSI1_D1_P, A18 MIPI_DSI1_CLK_P, A19 MIPI_DSI1_D2_P, A20 MIPI_DSI1_D3_P, B16 MIPI_DSI1_D0_N, B17 MIPI_DSI1_D1_N, B18 MIPI_DSI1_CLK_N, B19 MIPI_DSI1_D2_N, B20 MIPI_DSI1_D3_N, F18 MIPI_VREG1_CAP, F24 MIPI_TEST_DNU
part E pins: A21 MIPI_CSI2_D3_P, A22 MIPI_CSI2_D2_P, A23 MIPI_CSI2_CLK_P, A24 MIPI_CSI2_D1_P, A25 MIPI_CSI2_D0_P, B21 MIPI_CSI2_D3_N, B22 MIPI_CSI2_D2_N, B23 MIPI_CSI2_CLK_N, B24 MIPI_CSI2_D1_N, B25 MIPI_CSI2_D0_N, D18 MIPI_CSI1_D0_P, D20 MIPI_CSI1_D1_P, D22 MIPI_CSI1_CLK_P, D24 MIPI_CSI1_D2_P, D26 MIPI_CSI1_D3_P, E18 MIPI_CSI1_D0_N, E20 MIPI_CSI1_D1_N, E22 MIPI_CSI1_CLK_N, E24 MIPI_CSI1_D2_N, E26 MIPI_CSI1_D3_N
part F pins: AC22 HDMI_DDC_SCL, AD22 HDMI_CEC, AE22 HDMI_HPD, AF22 HDMI_DDC_SDA, AH22 EARC_N_HPD, AH23 EARC_AUX, AH24 HDMI_TXC_P, AH25 HDMI_TX0_P, AH26 HDMI_TX1_P, AH27 HDMI_TX2_P, AJ23 EARC_P_UTIL, AJ24 HDMI_TXC_N, AJ25 HDMI_TX0_N, AJ26 HDMI_TX1_N, AJ27 HDMI_TX2_N, AJ28 HDMI_REXT
part G pins: A26 LVDS1_D0_P, A27 LVDS1_D1_P, A28 LVDS1_CLK_P, B26 LVDS1_D0_N, B27 LVDS1_D1_N, B28 LVDS1_CLK_N, B29 LVDS1_D2_P, C28 LVDS1_D2_N, C29 LVDS1_D3_P, D28 LVDS1_D3_N, D29 LVDS0_D0_P, E28 LVDS0_D0_N, E29 LVDS0_D1_P, F28 LVDS0_D1_N, F29 LVDS0_CLK_P, G28 LVDS0_CLK_N, G29 LVDS0_D2_P, H28 LVDS0_D2_N, H29 LVDS0_D3_P, J28 LVDS0_D3_N
part H pins: AC10 SAI1_RXD0, AC12 SAI1_TXD6, AC14 SAI5_RXFS, AC16 SAI3_TXFS, AC18 SPDIF_EXT_CLK, AD10 SAI1_RXD4, AD12 SAI1_TXD3, AD14 SAI5_RXC, AD16 SAI5_RXD1, AD18 SPDIF_RX, AE10 SAI1_RXD5, AE12 SAI1_MCLK, AE14 SAI5_RXD3, AE16 SAI5_RXD0, AE18 SPDIF_TX, AF10 SAI1_RXD1, AF12 SAI1_TXFS, AF14 SAI5_MCLK, AF16 SAI5_RXD2, AF18 SAI3_RXD, AH8 SAI1_RXC, AH9 SAI1_RXD2, AH10 SAI1_RXD6, AH11 SAI1_TXD2, AH12 SAI1_RXD7, AH13 SAI1_TXD4, AH14 SAI1_TXD5, AH15 SAI2_TXC, AH16 SAI2_TXD0, AH17 SAI2_RXFS, AH18 SAI3_TXD, AH19 SAI3_TXC, AJ8 SAI1_RXD3, AJ9 SAI1_RXFS, AJ10 SAI1_TXD1, AJ11 SAI1_TXD0, AJ12 SAI1_TXC, AJ13 SAI1_TXD7, AJ14 SAI2_RXD0, AJ15 SAI2_MCLK, AJ16 SAI2_RXC, AJ17 SAI2_TXFS, AJ18 SAI3_RXC, AJ19 SAI3_RXFS, AJ20 SAI3_MCLK
part I pins: L24 NAND_DATA02, L25 NAND_DATA01, L26 NAND_CE0_B, M28 NAND_CLE, M29 NAND_DATA06, N24 NAND_DATA03, N25 NAND_ALE, N28 NAND_CE3_B, N29 NAND_DATA05, P28 NAND_CE2_B, P29 NAND_DATA04, R25 NAND_DATA00, R26 NAND_DQS, R28 NAND_RE_B, R29 NAND_DATA07, T28 NAND_READY_B, T29 NAND_CE1_B, U28 NAND_WE_B, U29 NAND_WP_B
part J pins: AA25 SD2_DATA3, AA26 SD2_DATA2, AA28 SD1_DATA6, AA29 SD1_DATA5, AB28 SD2_CMD, AB29 SD2_CLK, AC26 SD2_WP, AC28 SD2_DATA0, AC29 SD2_DATA1, AD28 SD2_RESET_B, AD29 SD2_CD_B, U25 SD1_DATA7, U26 SD1_DATA4, V28 SD1_DATA3, V29 SD1_DATA2, W25 SD1_RESET_B, W26 SD1_STROBE, W28 SD1_CLK, W29 SD1_CMD, Y28 SD1_DATA1, Y29 SD1_DATA0
part K pins: AC25 ENET_TD0, AD24 ENET_TD3, AE24 ENET_TXC, AE26 ENET_TD1, AE28 ENET_RX_CTL, AE29 ENET_RXC, AF24 ENET_TX_CTL, AF26 ENET_TD2, AF28 ENET_RD3, AF29 ENET_RD2, AG28 ENET_RD1, AG29 ENET_RD0, AH28 ENET_MDC, AH29 ENET_MDIO
part L pins: A3 GPIO1_IO06, A4 GPIO1_IO14, A5 GPIO1_IO12, A6 GPIO1_IO13, A7 GPIO1_IO00, A8 GPIO1_IO08, AC8 I2C1_SCL, AC20 ECSPI1_MOSI, AD6 UART1_RXD, AD8 I2C4_SDA, AD20 ECSPI1_MISO, AE6 UART3_RXD, AE8 I2C2_SDA, AE20 ECSPI1_SS0, AF6 UART2_RXD, AF8 I2C4_SCL, AF20 ECSPI1_SCLK, AH4 UART2_TXD, AH5 UART4_TXD, AH6 I2C2_SCL, AH7 I2C1_SDA, AH20 ECSPI2_MISO, AH21 ECSPI2_SCLK, AJ3 UART1_TXD, AJ4 UART3_TXD, AJ5 UART4_RXD, AJ6 I2C3_SDA, AJ7 I2C3_SCL, AJ21 ECSPI2_MOSI, AJ22 ECSPI2_SS0, B4 GPIO1_IO05, B5 GPIO1_IO15, B6 GPIO1_IO02, B7 GPIO1_IO10, B8 GPIO1_IO09, D6 GPIO1_IO03, D8 GPIO1_IO11, E6 GPIO1_IO04, E8 GPIO1_IO01, F6 GPIO1_IO07
part M pins: F8 BOOT_MODE1, F14 JTAG_TDO, F22 PMIC_ON_REQ, G8 BOOT_MODE2, G10 BOOT_MODE0, G12 BOOT_MODE3, G14 JTAG_TMS, G16 JTAG_TDI, G18 JTAG_TCK, G20 JTAG_MOD, G22 ONOFF, G25 XTALI_24M, G26 XTALO_24M, J24 PMIC_STBY_REQ, J25 RTC_XTALI, J26 RTC_XTALO, J29 POR_B, K28 CLKIN1, K29 CLKOUT1, L28 CLKIN2, L29 CLKOUT2
part N pins: AA8 NVCC_DRAM_2 (power), AA10 NVCC_DRAM_1 (power), AA11 NVCC_SAI2_SAI3_SPDIF (power), AA14 NVCC_ECSPI_HDMI (power), AA16 PVCC2_1P8 (power), AA19 PVCC1_1P8 (power), AA20 VDD_EARC_1P8 (power), AA22 VDD_HDMI_1P8 (power), AA24 NVCC_ENET (power), F20 VDD_MIPI_1P2_CAP (power), J8 NVCC_DRAM_4 (power), J10 NVCC_DRAM_3 (power), J11 NVCC_GPIO (power), J14 VDD_USB_3P3, J16 PVCC0_1P8 (power), J19 VDD_USB_1P8, J20 VDD_ANA0_1P8 (power), J22 VDD_LVDS_1P8 (power), K10 VDD_SOC_1 (power), K11 NVCC_JTAG (power), K14 VDD_USB_0P8, K15 VDD_PCI_0P8 (power), K16 VDD_MIPI_0P8 (power), K19 VDD_PCI_1P8 (power), K20 VDD_MIPI_1P8 (power), L8 NVCC_DRAM_5 (power), L9 VDD_SOC_11 (power), L10 VDD_SOC_2 (power), L11 VDD_SOC_3 (power), L12 VDD_SOC_4 (power), L13 VDD_SOC_5 (power), L17 VDD_SOC_6 (power), L18 VDD_SOC_7 (power), L19 VDD_SOC_8 (power), L20 VDD_SOC_9 (power), L21 VDD_SOC_10 (power), L22 VDD_24M_XTAL_1P8 (power), M14 VDD_SOC_12 (power), M16 VDD_SOC_13 (power), N8 NVCC_DRAM_6 (power), N9 VDD_SOC_28 (power), N10 VDD_SOC_14 (power), N12 VDD_SOC_15 (power), N13 VDD_SOC_16 (power), N14 VDD_SOC_34 (power), N15 VDD_SOC_33 (power), N16 VDD_SOC_32 (power), N17 VDD_SOC_31 (power), N18 VDD_SOC_30 (power), N20 VDD_SOC_29 (power), N21 VDD_SOC_35 (power), N22 VDD_ANA1_1P8 (power), N26 VDD_SNVS_0P8_CAP (power), P14 VDD_SOC_27 (power), P16 VDD_SOC_26 (power), R6 VDD_DRAM_PLL_1P8 (power), R8 NVCC_DRAM_7 (power), R9 VDD_DRAM_PLL_0P8 (power), R10 VDD_SOC_25 (power), R20 VDD_SOC_24 (power), R21 VDD_ANA1_0P8 (power), R22 NVCC_CLK (power), R24 NVCC_SNVS_1P8 (power), T14 VDD_ARM_1 (power), T16 VDD_ARM_2 (power), U8 NVCC_DRAM_8 (power), U9 VDD_SOC_20 (power), U10 VDD_SOC_23 (power), U12 VDD_ARM_3 (power), U13 VDD_ARM_4 (power), U14 VDD_ARM_5 (power), U15 VDD_ARM_6 (power), U16 VDD_ARM_7 (power), U17 VDD_ARM_8 (power), U20 VDD_SOC_22 (power), U21 VDD_SAI_PLL_0P8 (power), U22 NVCC_NAND (power), U24 NVCC_SD1 (power), V14 VDD_ARM_9 (power), V16 VDD_ARM_10 (power), W8 NVCC_DRAM_9 (power), W9 VDD_SOC_17 (power), W10 VDD_SOC_19 (power), W11 VDD_SOC_18 (power), W12 VDD_ARM_11 (power), W13 VDD_ARM_12 (power), W17 VDD_ARM_13 (power), W18 VDD_SAI_PLL_1P8 (power), W19 VDD_AVPLL_1P8 (power), W20 VDD_SOC_21 (power), W21 VDD_ARM_PLL_0P8 (power), W22 VDD_HDMI_0P8 (power), W24 NVCC_SD2 (power), Y10 NVCC_I2C_UART (power), Y11 NVCC_SAI1_SAI5 (power), Y14 VDD_ARM_14 (power), Y15 VDD_ARM_15 (power), Y16 VDD_ARM_16 (power), Y19 VDD_ARM_PLL_1P8 (power), Y20 VDD_ANA2_1P8 (power)
part O pins: A1 VSS12 (power), A29 VSS46 (power), AA3 VSS49 (power), AA7 VSS50 (power), AA23 VSS47 (power), AA27 VSS48 (power), AB8 VSS59 (power), AB10 VSS51 (power), AB12 VSS52 (power), AB14 VSS53 (power), AB16 VSS54 (power), AB18 VSS56 (power), AB20 VSS57 (power), AB22 VSS58 (power), AC3 VSS62 (power), AC6 VSS63 (power), AC24 VSS60 (power), AC27 VSS61 (power), AE3 VSS65 (power), AE27 VSS64 (power), AG4 VSS76 (power), AG6 VSS78 (power), AG8 VSS79 (power), AG10 VSS67 (power), AG12 VSS68 (power), AG14 VSS69 (power), AG16 VSS70 (power), AG18 VSS71 (power), AG20 VSS72 (power), AG22 VSS73 (power), AG24 VSS74 (power), AG26 VSS75 (power), AJ1 VSS80 (power), AJ29 VSS81 (power), C4 VSS92 (power), C6 VSS93 (power), C8 VSS94 (power), C10 VSS82 (power), C12 VSS83 (power), C14 VSS84 (power), C16 VSS85 (power), C18 VSS86 (power), C20 VSS87 (power), C22 VSS89 (power), C24 VSS90 (power), C26 VSS91 (power), E3 VSS96 (power), E27 VSS95 (power), G3 VSS11 (power), G6 VSS98 (power), G24 VSS97 (power), G27 VSS10 (power), H8 VSS107 (power), H10 VSS100 (power), H12 VSS101 (power), H14 VSS102 (power), H16 VSS103 (power), H18 VSS104 (power), H20 VSS105 (power), H22 VSS106 (power), J3 VSS3 (power), J7 VSS4 (power), J23 VSS108 (power), J27 VSS109 (power), L3 VSS9 (power), L7 VSS1 (power), L14 VSS5 (power), L16 VSS6 (power), L23 VSS7 (power), L27 VSS8 (power), M11 VSS22 (power), M19 VSS33 (power), N3 VSS88 (power), N7 VSS99 (power), N11 VSS44 (power), N19 VSS55 (power), N23 VSS66 (power), N27 VSS77 (power), P11 VSS2 (power), P19 VSS13 (power), R3 VSS25 (power), R7 VSS26 (power), R11 VSS14 (power), R12 VSS15 (power), R13 VSS16 (power), R14 VSS17 (power), R16 VSS18 (power), R17 VSS19 (power), R18 VSS20 (power), R19 VSS21 (power), R23 VSS23 (power), R27 VSS24 (power), T11 VSS27 (power), T19 VSS28 (power), U3 VSS35 (power), U7 VSS36 (power), U11 VSS29 (power), U18 VSS30 (power), U19 VSS31 (power), U23 VSS32 (power), U27 VSS34 (power), V11 VSS37 (power), V19 VSS38 (power), W3 VSS43 (power), W7 VSS45 (power), W14 VSS39 (power), W16 VSS40 (power), W23 VSS41 (power), W27 VSS42 (power)
part A text: i.MX8MP - DDR; (LPDDR4/DDR4)
part B text: i.MX8MP - USB
part C text: i.MX8MP - PCIe
part D text: i.MX8MP - DSI
part E text: i.MX8MP - CSI
part F text: i.MX8MP - HDMI
part G text: i.MX8MP - LVDS
part H text: i.MX8MP - SAI
part I text: i.MX8MP - NAND
part J text: i.MX8MP - SD
part K text: i.MX8MP - eNET
part L text: i.MX8MP - Peri; NVCC_GPIO1
part M text: i.MX8MP - MISC
part N text: i.MX8MP - Power
part O text: i.MX8MP - GND

## MMPF0100NPZES_1
designator U?
CLASS: IC
footprint QFN56_0P5_8X8_EP4P1X4P4
part A pins: 1 ~{INT} (oc), 2 ~{SDWN} (oc), 3 ~{RESETMCU} (oc), 4 STANDBY (in), 5 ICTEST (in), 15 GNDREF1 (power), 47 VDDOTP (power), 48 GNDREF (power), 49 VCORE (power), 51 VCOREDIG (power), 52 VCOREREF (power), 53 SDA (io), 54 SCL (in), 55 VDDIO (power), 56 PWRON (in), 57 EPGND (power)
part B pins: 16 VGEN1 (power), 17 VIN1 (power), 18 VGEN2 (power), 26 VGEN3 (power), 27 VIN2 (power), 28 VGEN4 (power), 29 VHALF (power), 30 VINREFDDR (power), 31 VREFDDR (power), 39 VGEN5 (power), 40 VIN3 (power), 41 VGEN6 (power), 42 LICELL (power), 43 VSNVS (power), 50 VIN (power)
part C pins: 6 SW1FB (in), 7 SW1AIN (in), 8 SW1ALX (out), 9 SW1BLX (out), 10 SW1BIN (in), 11 SW1CLX (out), 12 SW1CIN (in), 13 SW1CFB (in), 14 SW1VSSSNS (power), 19 SW4FB (in), 20 SW4IN (in), 21 SW4LX (out), 22 SW2LX (out), 23 SW2IN_1 (in), 24 SW2IN_2 (in), 25 SW2FB (in), 32 SW3VSSSNS (power), 33 SW3BFB (in), 34 SW3BIN (in), 35 SW3BLX (out), 36 SW3ALX (out), 37 SW3AIN (in), 38 SW3AFB (in), 44 SWBSTFB (in), 45 SWBSTIN (in), 46 SWBSTLX (out)
part A text: Control
part B text: LDO
part C text: DCDC; SW1A/B; SW1C; SW2; SW3A/B; SW4; SWBST

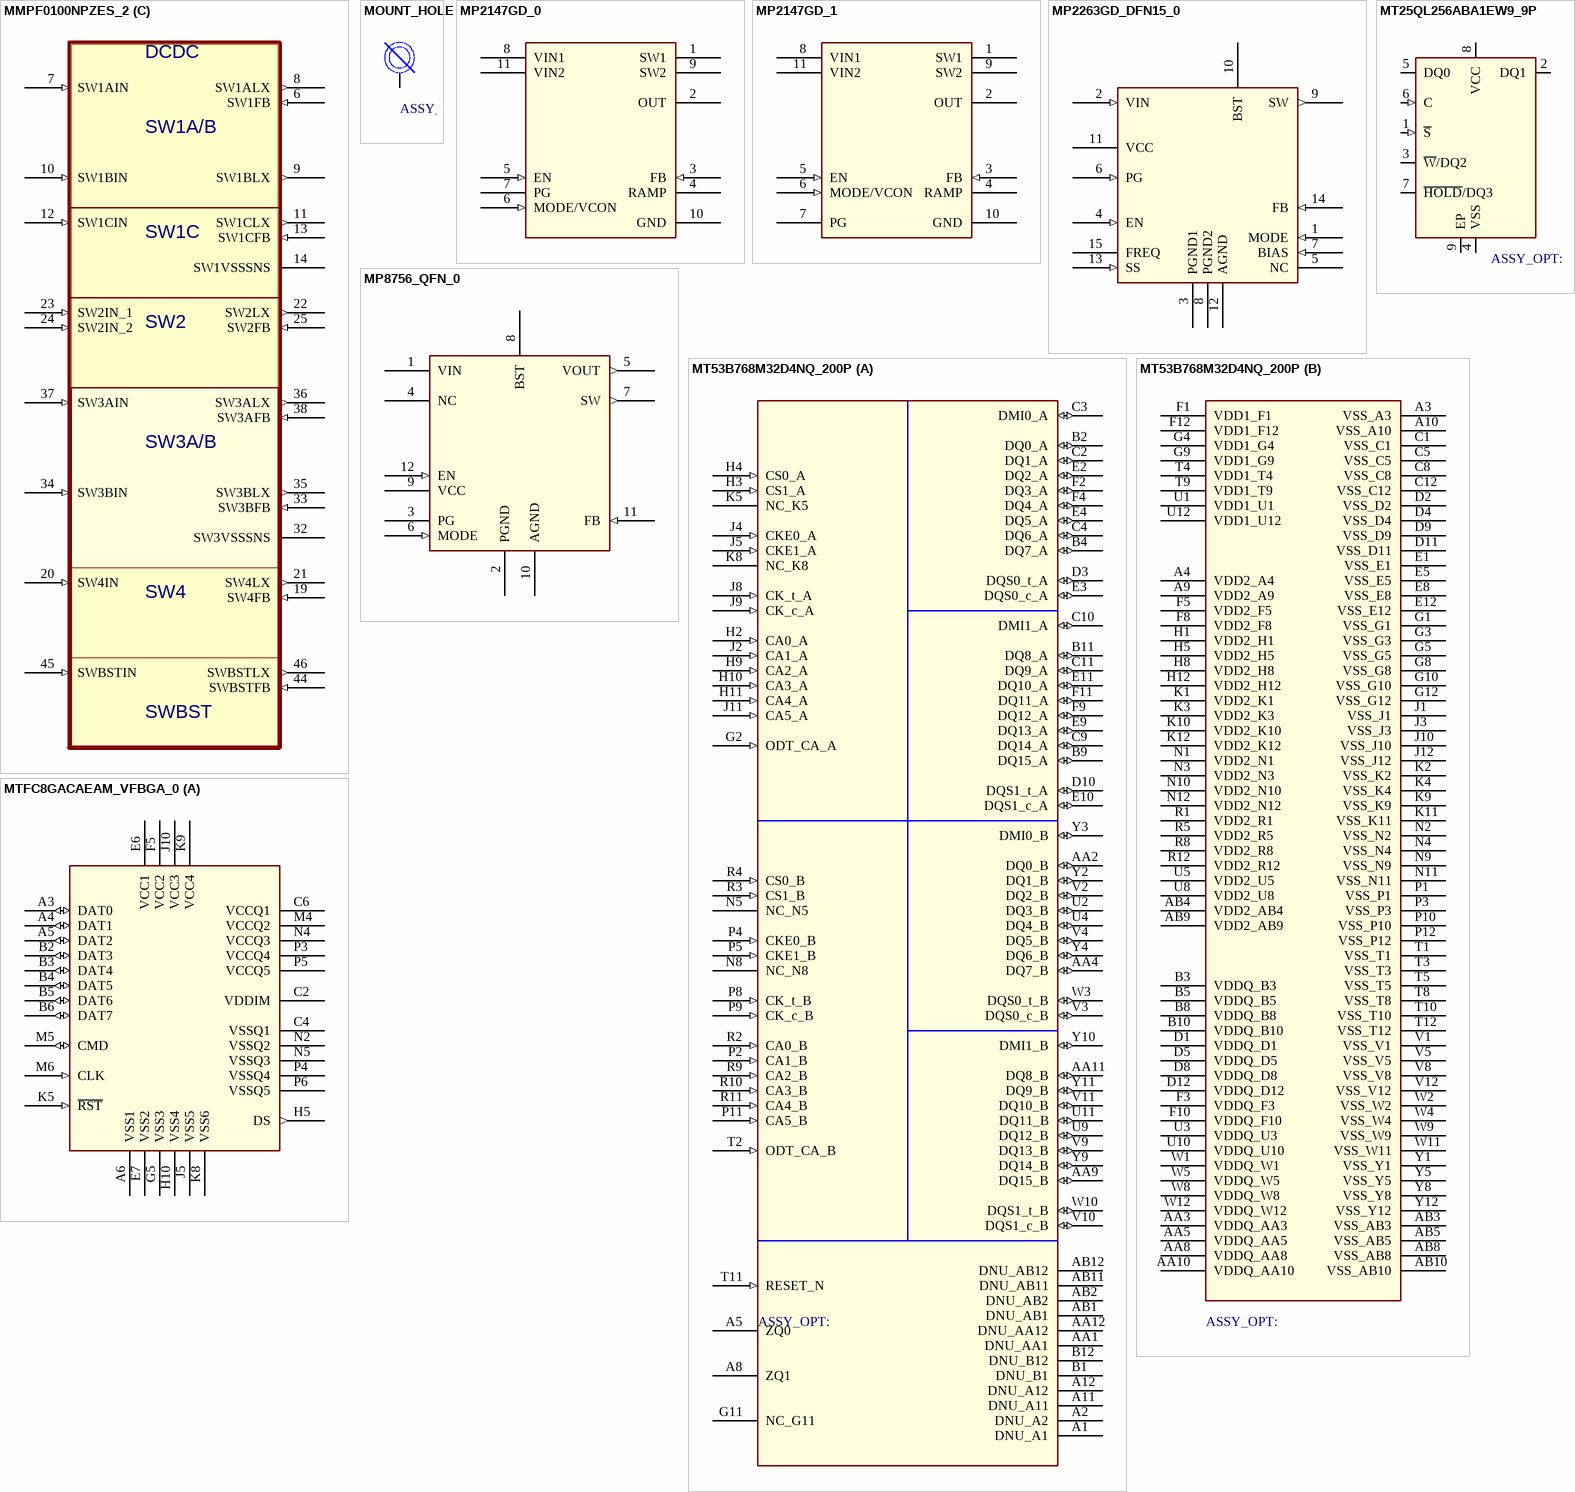
[diagram p6: symbols MMPF0100NPZES_2 to MTFC8GACAEAM_VFBGA_0]

## MMPF0100NPZES_2
designator U?
CLASS: IC
footprint QFN56_0P5_8X8_EP4P1X4P4
part A pins: 1 ~{INT} (oc), 2 ~{SDWN} (oc), 3 ~{RESETMCU} (oc), 4 STANDBY (in), 5 ICTEST (in), 15 GNDREF1 (power), 47 VDDOTP (power), 48 GNDREF (power), 49 VCORE (power), 51 VCOREDIG (power), 52 VCOREREF (power), 53 SDA (io), 54 SCL (in), 55 VDDIO (power), 56 PWRON (in), 57 EPGND (power)
part B pins: 16 VGEN1 (power), 17 VIN1 (power), 18 VGEN2 (power), 26 VGEN3 (power), 27 VIN2 (power), 28 VGEN4 (power), 29 VHALF (power), 30 VINREFDDR (power), 31 VREFDDR (power), 39 VGEN5 (power), 40 VIN3 (power), 41 VGEN6 (power), 42 LICELL (power), 43 VSNVS (power), 50 VIN (power)
part C pins: 6 SW1FB (in), 7 SW1AIN (in), 8 SW1ALX (out), 9 SW1BLX (out), 10 SW1BIN (in), 11 SW1CLX (out), 12 SW1CIN (in), 13 SW1CFB (in), 14 SW1VSSSNS (power), 19 SW4FB (in), 20 SW4IN (in), 21 SW4LX (out), 22 SW2LX (out), 23 SW2IN_1 (in), 24 SW2IN_2 (in), 25 SW2FB (in), 32 SW3VSSSNS (power), 33 SW3BFB (in), 34 SW3BIN (in), 35 SW3BLX (out), 36 SW3ALX (out), 37 SW3AIN (in), 38 SW3AFB (in), 44 SWBSTFB (in), 45 SWBSTIN (in), 46 SWBSTLX (out)
part A text: Control
part B text: LDO
part C text: DCDC; SW1A/B; SW1C; SW2; SW3A/B; SW4; SWBST

## MOUNT_HOLE
designator BH?
CLASS: IC
pins: 1

## MP2147GD_0
designator U?
CLASS: IC
pins: 1 SW1 (power), 2 OUT (power), 3 FB (in), 4 RAMP, 5 EN (in), 6 MODE/VCON (in), 7 PG (oc), 8 VIN1 (power), 9 SW2 (power), 10 GND (power), 11 VIN2 (power)

## MP2147GD_1
designator U?
CLASS: IC
pins: 1 SW1 (power), 2 OUT (power), 3 FB (in), 4 RAMP, 5 EN (in), 6 MODE/VCON (in), 7 PG (oc), 8 VIN1 (power), 9 SW2 (power), 10 GND (power), 11 VIN2 (power)

## MP2263GD_DFN15_0
designator U?
CLASS: IC
pins: 1 MODE (in), 2 VIN (in), 3 PGND1 (power), 4 EN (in), 5 NC, 6 PG (in), 7 BIAS (in), 8 PGND2 (power), 9 SW (out), 10 BST (power), 11 VCC (power), 12 AGND (power), 13 SS (in), 14 FB (in), 15 FREQ

## MP8756_QFN_0
designator U?
CLASS: IC
pins: 1 VIN (power), 2 PGND (power), 3 PG (oc), 4 NC, 5 VOUT (out), 6 MODE (in), 7 SW (out), 8 BST, 9 VCC (power), 10 AGND (power), 11 FB (in), 12 EN (in)

## MT25QL256ABA1EW9_9P
designator U?
CLASS: IC
pins: 1 ~{S} (in), 2 DQ1 (io), 3 ~{W}/DQ2 (io), 4 VSS (power), 5 DQ0 (io), 6 C (in), 7 ~{HOLD}/DQ3 (io), 8 VCC (power), 9 EP (power)

## MT53B768M32D4NQ_200P
designator U?
SWAP_INFO: (S1+S2); SPLIT_INST: TRUE; CLASS: IC
part A pins: A1 DNU_A1, A2 DNU_A2, A5 ZQ0, A8 ZQ1, A11 DNU_A11, A12 DNU_A12, AA1 DNU_AA1, AA2 DQ0_B (io), AA4 DQ7_B (io), AA9 DQ15_B (io), AA11 DQ8_B (io), AA12 DNU_AA12, AB1 DNU_AB1, AB2 DNU_AB2, AB11 DNU_AB11, AB12 DNU_AB12, B1 DNU_B1, B2 DQ0_A (io), B4 DQ7_A (io), B9 DQ15_A (io), B11 DQ8_A (io), B12 DNU_B12, C2 DQ1_A (io), C3 DMI0_A (io), C4 DQ6_A (io), C9 DQ14_A (io), C10 DMI1_A (io), C11 DQ9_A (io), D3 DQS0_t_A (io), D10 DQS1_t_A (io), E2 DQ2_A (io), E3 DQS0_c_A (io), E4 DQ5_A (io), E9 DQ13_A (io), E10 DQS1_c_A (io), E11 DQ10_A (io), F2 DQ3_A (io), F4 DQ4_A (io), F9 DQ12_A (io), F11 DQ11_A (io), G2 ODT_CA_A (in), G11 NC_G11, H2 CA0_A (in), H3 CS1_A (in), H4 CS0_A (in), H9 CA2_A (in), H10 CA3_A (in), H11 CA4_A (in), J2 CA1_A (in), J4 CKE0_A (in), J5 CKE1_A (in), J8 CK_t_A (in), J9 CK_c_A (in), J11 CA5_A (in), K5 NC_K5, K8 NC_K8, N5 NC_N5, N8 NC_N8, P2 CA1_B (in), P4 CKE0_B (in), P5 CKE1_B (in), P8 CK_t_B (in), P9 CK_c_B (in), P11 CA5_B (in), R2 CA0_B (in), R3 CS1_B (in), R4 CS0_B (in), R9 CA2_B (in), R10 CA3_B (in), R11 CA4_B (in), T2 ODT_CA_B (in), T11 RESET_N (in), U2 DQ3_B (io), U4 DQ4_B (io), U9 DQ12_B (io), U11 DQ11_B (io), V2 DQ2_B (io), V3 DQS0_c_B (io), V4 DQ5_B (io), V9 DQ13_B (io), V10 DQS1_c_B (io), V11 DQ10_B (io), W3 DQS0_t_B (io), W10 DQS1_t_B (io), Y2 DQ1_B (io), Y3 DMI0_B (io), Y4 DQ6_B (io), Y9 DQ14_B (io), Y10 DMI1_B (io), Y11 DQ9_B (io)
part B pins: A3 VSS_A3 (power), A4 VDD2_A4 (power), A9 VDD2_A9 (power), A10 VSS_A10 (power), AA3 VDDQ_AA3 (power), AA5 VDDQ_AA5 (power), AA8 VDDQ_AA8 (power), AA10 VDDQ_AA10 (power), AB3 VSS_AB3 (power), AB4 VDD2_AB4 (power), AB5 VSS_AB5 (power), AB8 VSS_AB8 (power), AB9 VDD2_AB9 (power), AB10 VSS_AB10 (power), B3 VDDQ_B3 (power), B5 VDDQ_B5 (power), B8 VDDQ_B8 (power), B10 VDDQ_B10 (power), C1 VSS_C1 (power), C5 VSS_C5 (power), C8 VSS_C8 (power), C12 VSS_C12 (power), D1 VDDQ_D1 (power), D2 VSS_D2 (power), D4 VSS_D4 (power), D5 VDDQ_D5 (power), D8 VDDQ_D8 (power), D9 VSS_D9 (power), D11 VSS_D11 (power), D12 VDDQ_D12 (power), E1 VSS_E1 (power), E5 VSS_E5 (power), E8 VSS_E8 (power), E12 VSS_E12 (power), F1 VDD1_F1 (power), F3 VDDQ_F3 (power), F5 VDD2_F5 (power), F8 VDD2_F8 (power), F10 VDDQ_F10 (power), F12 VDD1_F12 (power), G1 VSS_G1 (power), G3 VSS_G3 (power), G4 VDD1_G4 (power), G5 VSS_G5 (power), G8 VSS_G8 (power), G9 VDD1_G9 (power), G10 VSS_G10 (power), G12 VSS_G12 (power), H1 VDD2_H1 (power), H5 VDD2_H5 (power), H8 VDD2_H8 (power), H12 VDD2_H12 (power), J1 VSS_J1 (power), J3 VSS_J3 (power), J10 VSS_J10 (power), J12 VSS_J12 (power), K1 VDD2_K1 (power), K2 VSS_K2 (power), K3 VDD2_K3 (power), K4 VSS_K4 (power), K9 VSS_K9 (power), K10 VDD2_K10 (power), K11 VSS_K11 (power), K12 VDD2_K12 (power), N1 VDD2_N1 (power), N2 VSS_N2 (power), N3 VDD2_N3 (power), N4 VSS_N4 (power), N9 VSS_N9 (power), N10 VDD2_N10 (power), N11 VSS_N11 (power), N12 VDD2_N12 (power), P1 VSS_P1 (power), P3 VSS_P3 (power), P10 VSS_P10 (power), P12 VSS_P12 (power), R1 VDD2_R1 (power), R5 VDD2_R5 (power), R8 VDD2_R8 (power), R12 VDD2_R12 (power), T1 VSS_T1 (power), T3 VSS_T3 (power), T4 VDD1_T4 (power), T5 VSS_T5 (power), T8 VSS_T8 (power), T9 VDD1_T9 (power), T10 VSS_T10 (power), T12 VSS_T12 (power), U1 VDD1_U1 (power), U3 VDDQ_U3 (power), U5 VDD2_U5 (power), U8 VDD2_U8 (power), U10 VDDQ_U10 (power), U12 VDD1_U12 (power), V1 VSS_V1 (power), V5 VSS_V5 (power), V8 VSS_V8 (power), V12 VSS_V12 (power), W1 VDDQ_W1 (power), W2 VSS_W2 (power), W4 VSS_W4 (power), W5 VDDQ_W5 (power), W8 VDDQ_W8 (power), W9 VSS_W9 (power), W11 VSS_W11 (power), W12 VDDQ_W12 (power), Y1 VSS_Y1 (power), Y5 VSS_Y5 (power), Y8 VSS_Y8 (power), Y12 VSS_Y12 (power)

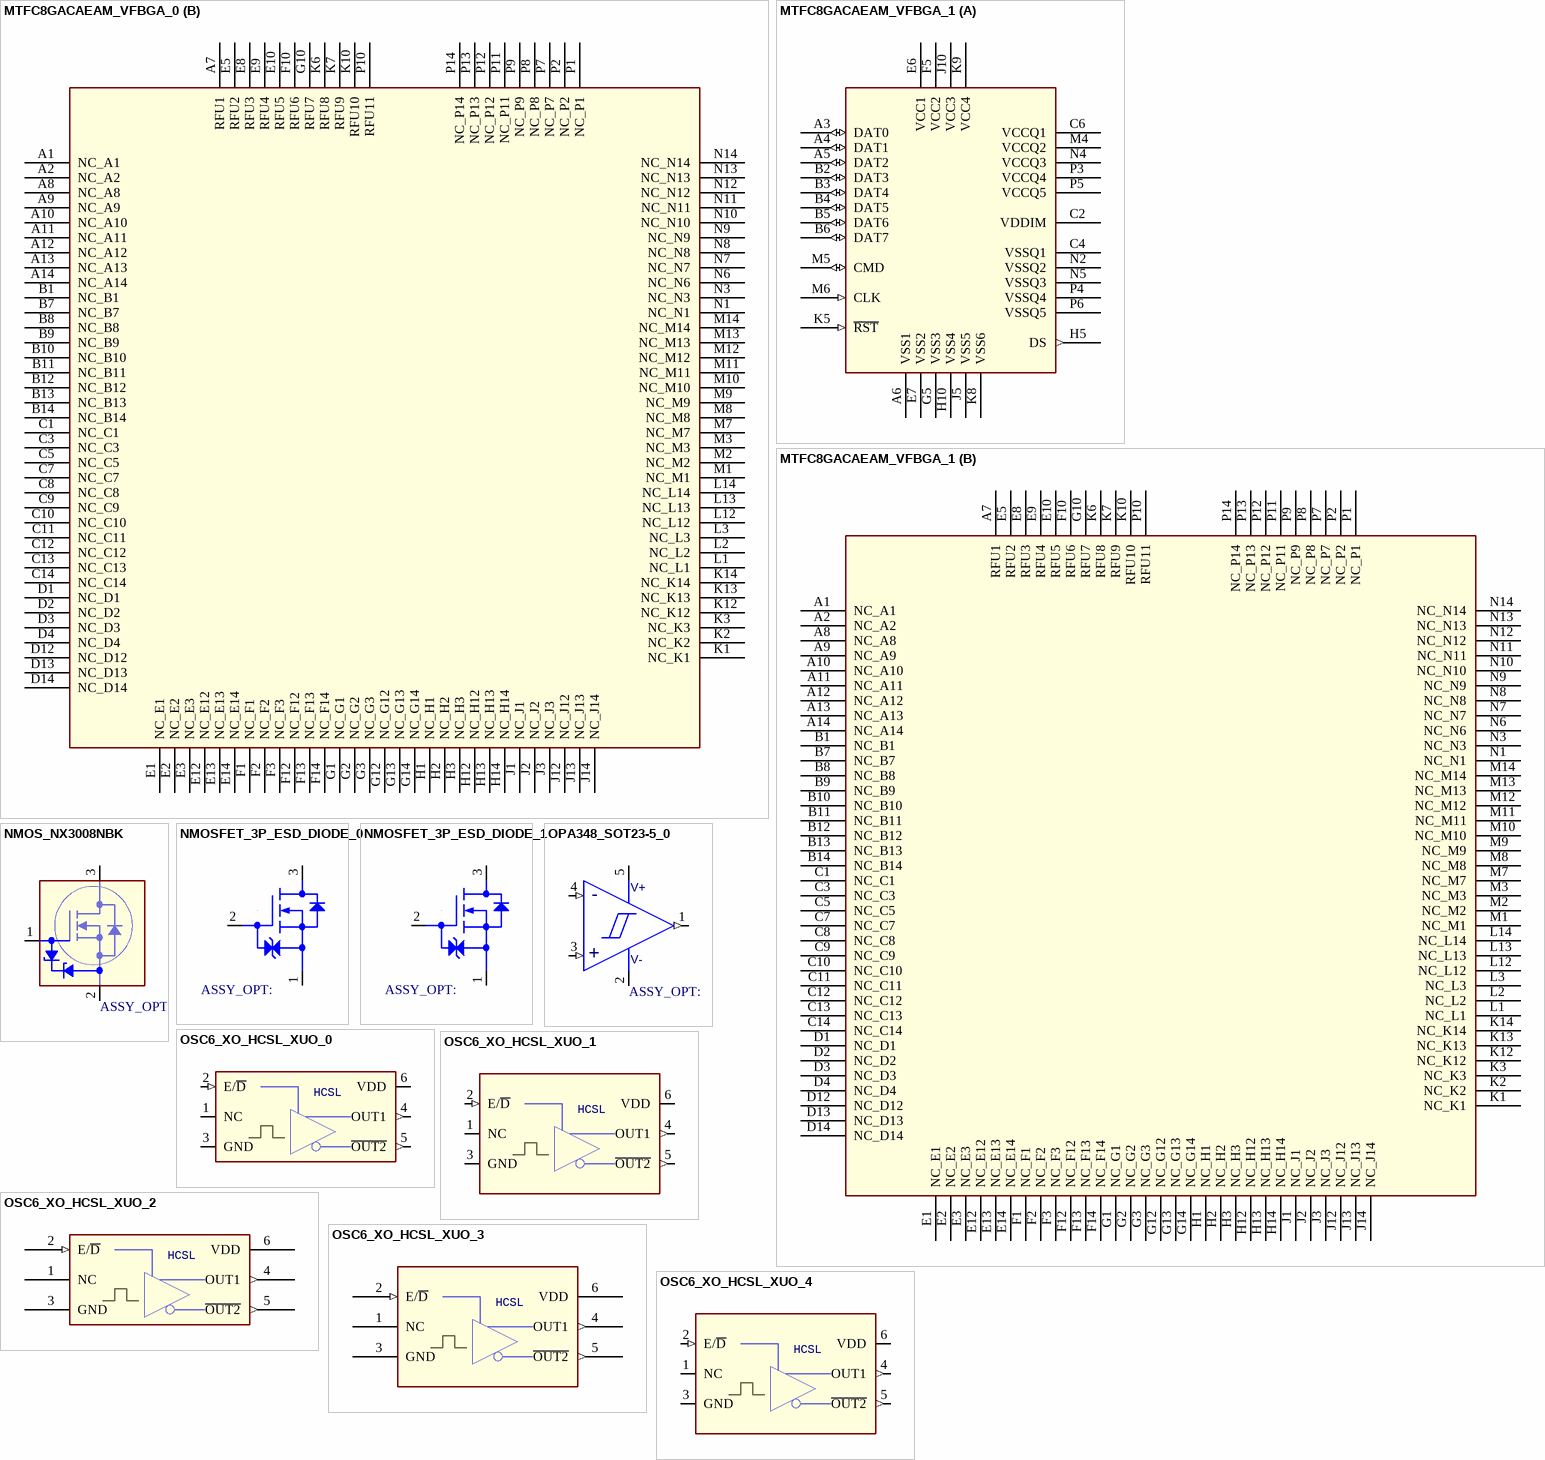
[diagram p7: symbols MTFC8GACAEAM_VFBGA_0 to OSC6_XO_HCSL_XUO_4]

## MTFC8GACAEAM_VFBGA_0
designator U?
CLASS: IC
footprint WFBGA153
part A pins: A3 DAT0 (io), A4 DAT1 (io), A5 DAT2 (io), A6 VSS1 (power), B2 DAT3 (io), B3 DAT4 (io), B4 DAT5 (io), B5 DAT6 (io), B6 DAT7 (io), C2 VDDIM (power), C4 VSSQ1 (power), C6 VCCQ1 (power), E6 VCC1 (power), E7 VSS2 (power), F5 VCC2 (power), G5 VSS3 (power), H5 DS (out), H10 VSS4 (power), J5 VSS5 (power), J10 VCC3 (power), K5 ~{RST} (in), K8 VSS6 (power), K9 VCC4 (power), M4 VCCQ2 (power), M5 CMD (io), M6 CLK (in), N2 VSSQ2 (power), N4 VCCQ3 (power), N5 VSSQ3 (power), P3 VCCQ4 (power), P4 VSSQ4 (power), P5 VCCQ5 (power), P6 VSSQ5 (power)
part B pins: A1 NC_A1, A2 NC_A2, A7 RFU1, A8 NC_A8, A9 NC_A9, A10 NC_A10, A11 NC_A11, A12 NC_A12, A13 NC_A13, A14 NC_A14, B1 NC_B1, B7 NC_B7, B8 NC_B8, B9 NC_B9, B10 NC_B10, B11 NC_B11, B12 NC_B12, B13 NC_B13, B14 NC_B14, C1 NC_C1, C3 NC_C3, C5 NC_C5, C7 NC_C7, C8 NC_C8, C9 NC_C9, C10 NC_C10, C11 NC_C11, C12 NC_C12, C13 NC_C13, C14 NC_C14, D1 NC_D1, D2 NC_D2, D3 NC_D3, D4 NC_D4, D12 NC_D12, D13 NC_D13, D14 NC_D14, E1 NC_E1, E2 NC_E2, E3 NC_E3, E5 RFU2, E8 RFU3, E9 RFU4, E10 RFU5, E12 NC_E12, E13 NC_E13, E14 NC_E14, F1 NC_F1, F2 NC_F2, F3 NC_F3, F10 RFU6, F12 NC_F12, F13 NC_F13, F14 NC_F14, G1 NC_G1, G2 NC_G2, G3 NC_G3, G10 RFU7, G12 NC_G12, G13 NC_G13, G14 NC_G14, H1 NC_H1, H2 NC_H2, H3 NC_H3, H12 NC_H12, H13 NC_H13, H14 NC_H14, J1 NC_J1, J2 NC_J2, J3 NC_J3, J12 NC_J12, J13 NC_J13, J14 NC_J14, K1 NC_K1, K2 NC_K2, K3 NC_K3, K6 RFU8, K7 RFU9, K10 RFU10, K12 NC_K12, K13 NC_K13, K14 NC_K14, L1 NC_L1, L2 NC_L2, L3 NC_L3, L12 NC_L12, L13 NC_L13, L14 NC_L14, M1 NC_M1, M2 NC_M2, M3 NC_M3, M7 NC_M7, M8 NC_M8, M9 NC_M9, M10 NC_M10, M11 NC_M11, M12 NC_M12, M13 NC_M13, M14 NC_M14, N1 NC_N1, N3 NC_N3, N6 NC_N6, N7 NC_N7, N8 NC_N8, N9 NC_N9, N10 NC_N10, N11 NC_N11, N12 NC_N12, N13 NC_N13, N14 NC_N14, P1 NC_P1, P2 NC_P2, P7 NC_P7, P8 NC_P8, P9 NC_P9, P10 RFU11, P11 NC_P11, P12 NC_P12, P13 NC_P13, P14 NC_P14

## MTFC8GACAEAM_VFBGA_1
designator U?
CLASS: IC
footprint WFBGA153
part A pins: A3 DAT0 (io), A4 DAT1 (io), A5 DAT2 (io), A6 VSS1 (power), B2 DAT3 (io), B3 DAT4 (io), B4 DAT5 (io), B5 DAT6 (io), B6 DAT7 (io), C2 VDDIM (power), C4 VSSQ1 (power), C6 VCCQ1 (power), E6 VCC1 (power), E7 VSS2 (power), F5 VCC2 (power), G5 VSS3 (power), H5 DS (out), H10 VSS4 (power), J5 VSS5 (power), J10 VCC3 (power), K5 ~{RST} (in), K8 VSS6 (power), K9 VCC4 (power), M4 VCCQ2 (power), M5 CMD (io), M6 CLK (in), N2 VSSQ2 (power), N4 VCCQ3 (power), N5 VSSQ3 (power), P3 VCCQ4 (power), P4 VSSQ4 (power), P5 VCCQ5 (power), P6 VSSQ5 (power)
part B pins: A1 NC_A1, A2 NC_A2, A7 RFU1, A8 NC_A8, A9 NC_A9, A10 NC_A10, A11 NC_A11, A12 NC_A12, A13 NC_A13, A14 NC_A14, B1 NC_B1, B7 NC_B7, B8 NC_B8, B9 NC_B9, B10 NC_B10, B11 NC_B11, B12 NC_B12, B13 NC_B13, B14 NC_B14, C1 NC_C1, C3 NC_C3, C5 NC_C5, C7 NC_C7, C8 NC_C8, C9 NC_C9, C10 NC_C10, C11 NC_C11, C12 NC_C12, C13 NC_C13, C14 NC_C14, D1 NC_D1, D2 NC_D2, D3 NC_D3, D4 NC_D4, D12 NC_D12, D13 NC_D13, D14 NC_D14, E1 NC_E1, E2 NC_E2, E3 NC_E3, E5 RFU2, E8 RFU3, E9 RFU4, E10 RFU5, E12 NC_E12, E13 NC_E13, E14 NC_E14, F1 NC_F1, F2 NC_F2, F3 NC_F3, F10 RFU6, F12 NC_F12, F13 NC_F13, F14 NC_F14, G1 NC_G1, G2 NC_G2, G3 NC_G3, G10 RFU7, G12 NC_G12, G13 NC_G13, G14 NC_G14, H1 NC_H1, H2 NC_H2, H3 NC_H3, H12 NC_H12, H13 NC_H13, H14 NC_H14, J1 NC_J1, J2 NC_J2, J3 NC_J3, J12 NC_J12, J13 NC_J13, J14 NC_J14, K1 NC_K1, K2 NC_K2, K3 NC_K3, K6 RFU8, K7 RFU9, K10 RFU10, K12 NC_K12, K13 NC_K13, K14 NC_K14, L1 NC_L1, L2 NC_L2, L3 NC_L3, L12 NC_L12, L13 NC_L13, L14 NC_L14, M1 NC_M1, M2 NC_M2, M3 NC_M3, M7 NC_M7, M8 NC_M8, M9 NC_M9, M10 NC_M10, M11 NC_M11, M12 NC_M12, M13 NC_M13, M14 NC_M14, N1 NC_N1, N3 NC_N3, N6 NC_N6, N7 NC_N7, N8 NC_N8, N9 NC_N9, N10 NC_N10, N11 NC_N11, N12 NC_N12, N13 NC_N13, N14 NC_N14, P1 NC_P1, P2 NC_P2, P7 NC_P7, P8 NC_P8, P9 NC_P9, P10 RFU11, P11 NC_P11, P12 NC_P12, P13 NC_P13, P14 NC_P14

## NMOS_NX3008NBK
designator Q?
CLASS: IC
pins: 1 GATE, 2 SOURCE, 3 DRAIN

## NMOSFET_3P_ESD_DIODE_0
designator Q?
CLASS: IC
pins: 1 SOURCE, 2 GATE, 3 DRAIN

## NMOSFET_3P_ESD_DIODE_1
designator Q?
CLASS: IC
pins: 1 SOURCE, 2 GATE, 3 DRAIN

## OPA348_SOT23-5_0
designator U?
CLASS: IC
pins: 1 OUT (out), 2 V- (power), 3 +IN (in), 4 -IN (in), 5 V+ (power)
text: -; +

## OSC6_XO_HCSL_XUO_0
designator Y?
CLASS: IC
footprint JS6
pins: 1 NC, 2 E/~{D} (in), 3 GND (power), 4 OUT1 (out), 5 ~{OUT2} (out), 6 VDD (power)
text: HCSL

## OSC6_XO_HCSL_XUO_1
designator Y?
CLASS: IC
footprint JS6
pins: 1 NC, 2 E/~{D} (in), 3 GND (power), 4 OUT1 (out), 5 ~{OUT2} (out), 6 VDD (power)
text: HCSL

## OSC6_XO_HCSL_XUO_2
designator Y?
CLASS: IC
footprint JS6
pins: 1 NC, 2 E/~{D} (in), 3 GND (power), 4 OUT1 (out), 5 ~{OUT2} (out), 6 VDD (power)
text: HCSL

## OSC6_XO_HCSL_XUO_3
designator Y?
CLASS: IC
footprint JS6
pins: 1 NC, 2 E/~{D} (in), 3 GND (power), 4 OUT1 (out), 5 ~{OUT2} (out), 6 VDD (power)
text: HCSL

## OSC6_XO_HCSL_XUO_4
designator Y?
CLASS: IC
footprint JS6
pins: 1 NC, 2 E/~{D} (in), 3 GND (power), 4 OUT1 (out), 5 ~{OUT2} (out), 6 VDD (power)
text: HCSL

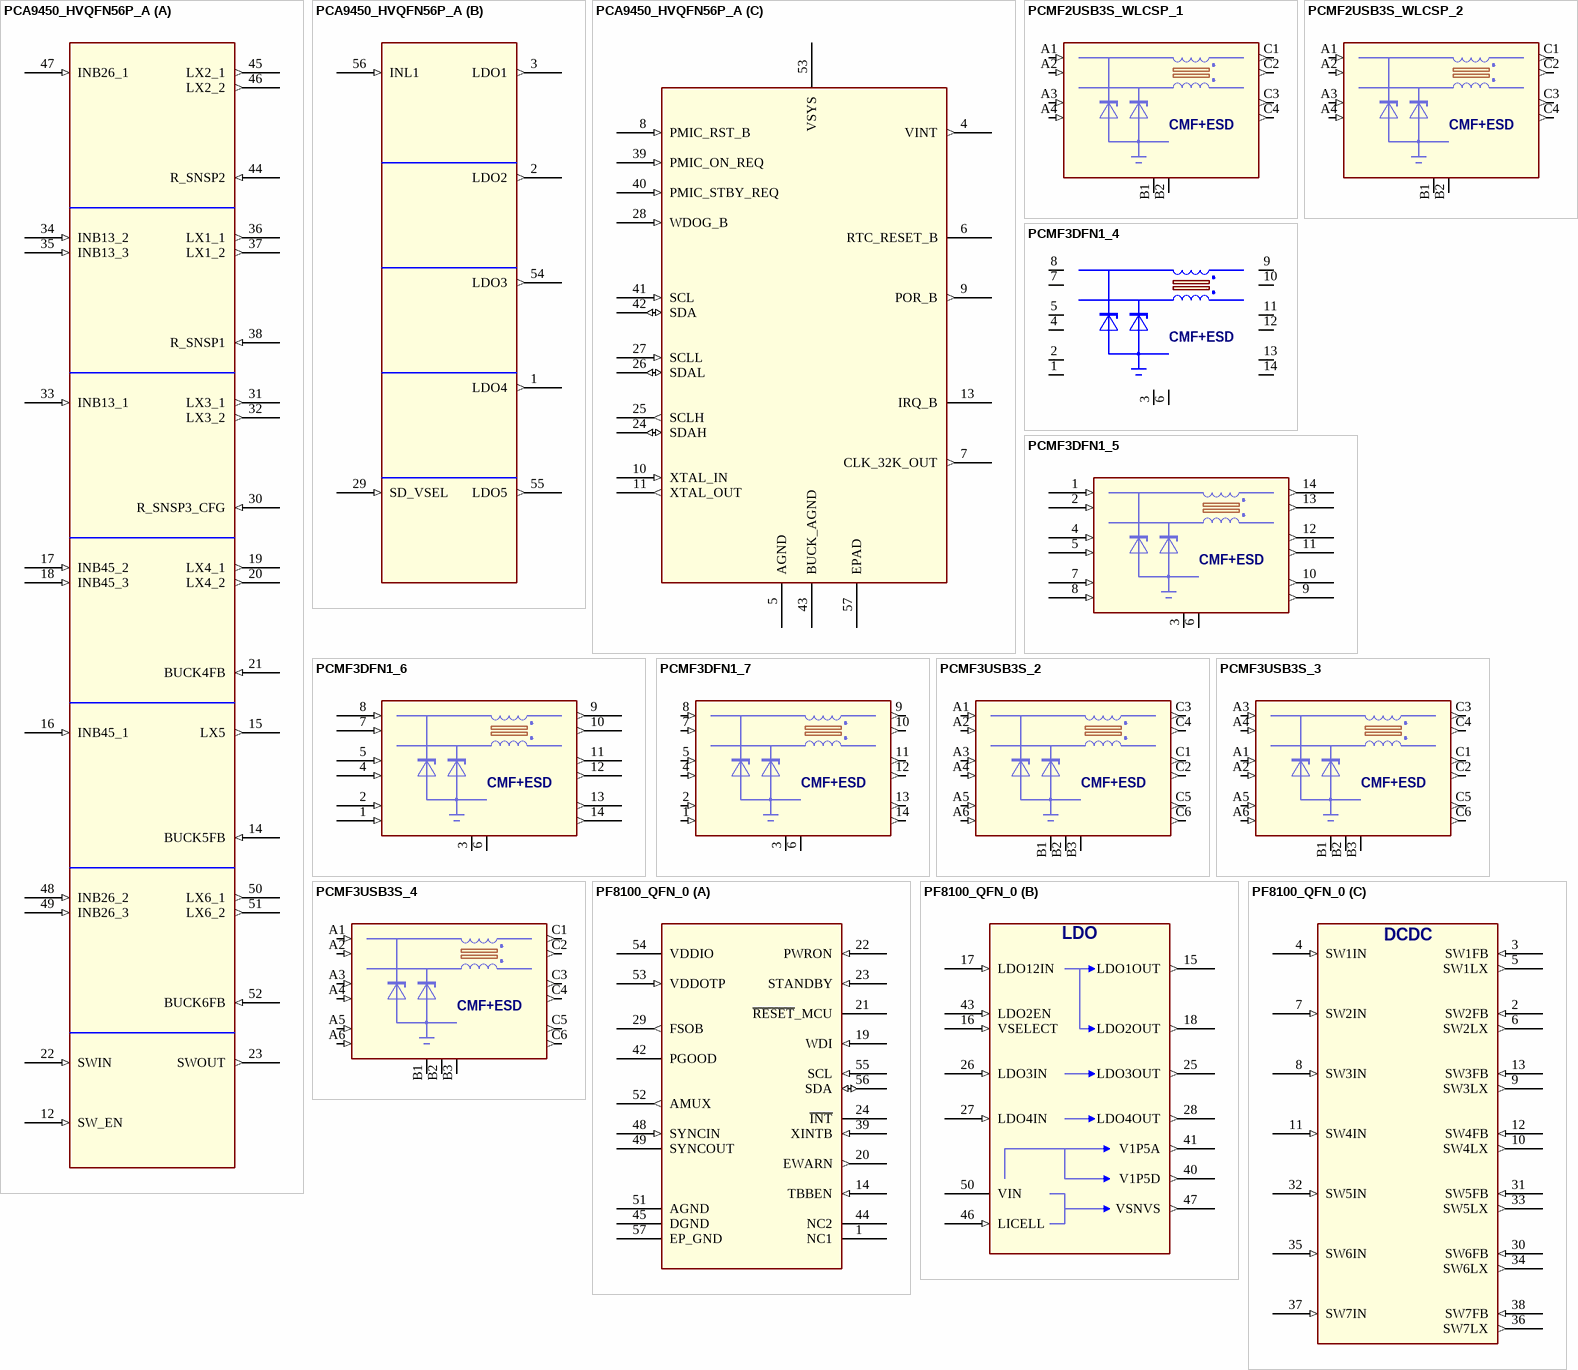
[diagram p8: symbols PCA9450_HVQFN56P_A to PF8100_QFN_0]

## PCA9450_HVQFN56P_A
designator U?
CLASS: IC; SPLIT_INST: TRUE; SWAP_INFO: (S1+S2+S3)
part A pins: 12 SW_EN (in), 14 BUCK5FB (in), 15 LX5 (out), 16 INB45_1 (in), 17 INB45_2 (in), 18 INB45_3 (in), 19 LX4_1 (out), 20 LX4_2 (out), 21 BUCK4FB (in), 22 SWIN (in), 23 SWOUT (out), 30 R_SNSP3_CFG (in), 31 LX3_1 (out), 32 LX3_2 (out), 33 INB13_1 (in), 34 INB13_2 (in), 35 INB13_3 (in), 36 LX1_1 (out), 37 LX1_2 (out), 38 R_SNSP1 (in), 44 R_SNSP2 (in), 45 LX2_1 (out), 46 LX2_2 (out), 47 INB26_1 (in), 48 INB26_2 (in), 49 INB26_3 (in), 50 LX6_1 (out), 51 LX6_2 (out), 52 BUCK6FB (in)
part B pins: 1 LDO4 (out), 2 LDO2 (out), 3 LDO1 (out), 29 SD_VSEL (in), 54 LDO3 (out), 55 LDO5 (out), 56 INL1 (in)
part C pins: 4 VINT (out), 5 AGND (power), 6 RTC_RESET_B (oc), 7 CLK_32K_OUT (out), 8 PMIC_RST_B (in), 9 POR_B (out), 10 XTAL_IN (in), 11 XTAL_OUT (out), 13 IRQ_B (oc), 24 SDAH (io), 25 SCLH (out), 26 SDAL (io), 27 SCLL (in), 28 WDOG_B (in), 39 PMIC_ON_REQ (in), 40 PMIC_STBY_REQ (in), 41 SCL (in), 42 SDA (io), 43 BUCK_AGND (power), 53 VSYS (power), 57 EPAD (power)

## PCMF2USB3S_WLCSP_1
designator U?
CLASS: IC
pins: A1 CH1_IN+ (in), A2 CH1_IN- (in), A3 CH2_IN+ (in), A4 CH2_IN- (in), B1 GND_CH1 (power), B2 GND_CH2 (power), C1 CH1_OUT+ (out), C2 CH1_OUT- (out), C3 CH2_OUT+ (out), C4 CH2_OUT- (out)
text: CMF+ESD

## PCMF2USB3S_WLCSP_2
designator U?
CLASS: IC
pins: A1 CH1_IN+ (in), A2 CH1_IN- (in), A3 CH2_IN+ (in), A4 CH2_IN- (in), B1 GND_CH1 (power), B2 GND_CH2 (power), C1 CH1_OUT+ (out), C2 CH1_OUT- (out), C3 CH2_OUT+ (out), C4 CH2_OUT- (out)
text: CMF+ESD

## PCMF3DFN1_4
designator U?
CLASS: IC
footprint SOT1334-1
pins: 1 CH1_IN+, 2 CH1_IN-, 3 GND_1, 4 CH2_IN+, 5 CH2_IN-, 6 GND_2, 7 CH3_IN+, 8 CH3_IN-, 9 CH3_OUT-, 10 CH3_OUT+, 11 CH2_OUT-, 12 CH2_OUT+, 13 CH1_OUT-, 14 CH1_OUT+
text: CMF+ESD

## PCMF3DFN1_5
designator U?
CLASS: IC
pins: 1 CH1_IN+ (in), 2 CH1_IN- (in), 3 GND_1 (power), 4 CH2_IN+ (in), 5 CH2_IN- (in), 6 GND_2 (power), 7 CH3_IN+ (in), 8 CH3_IN- (in), 9 CH3_OUT- (out), 10 CH3_OUT+ (out), 11 CH2_OUT- (out), 12 CH2_OUT+ (out), 13 CH1_OUT- (out), 14 CH1_OUT+ (out)
text: CMF+ESD

## PCMF3DFN1_6
designator U?
CLASS: IC
pins: 1 CH1_IN+ (in), 2 CH1_IN- (in), 3 GND_1 (power), 4 CH2_IN+ (in), 5 CH2_IN- (in), 6 GND_2 (power), 7 CH3_IN+ (in), 8 CH3_IN- (in), 9 CH3_OUT- (out), 10 CH3_OUT+ (out), 11 CH2_OUT- (out), 12 CH2_OUT+ (out), 13 CH1_OUT- (out), 14 CH1_OUT+ (out)
text: CMF+ESD

## PCMF3DFN1_7
designator U?
CLASS: IC
pins: 1 CH1_IN+ (in), 2 CH1_IN- (in), 3 GND_1 (power), 4 CH2_IN+ (in), 5 CH2_IN- (in), 6 GND_2 (power), 7 CH3_IN+ (in), 8 CH3_IN- (in), 9 CH3_OUT- (out), 10 CH3_OUT+ (out), 11 CH2_OUT- (out), 12 CH2_OUT+ (out), 13 CH1_OUT- (out), 14 CH1_OUT+ (out)
text: CMF+ESD

## PCMF3USB3S_2
designator U?
CLASS: IC
pins: A1 CH1_IN+ (in), A2 CH1_IN- (in), A3 CH2_IN+ (in), A4 CH2_IN- (in), A5 CH3_IN+ (in), A6 CH3_IN- (in), B1 GND_CH1 (power), B2 GND_CH2 (power), B3 GND_CH3 (power), C1 CH1_OUT+ (out), C2 CH1_OUT- (out), C3 CH2_OUT+ (out), C4 CH2_OUT- (out), C5 CH3_OUT+ (out), C6 CH3_OUT- (out)
text: CMF+ESD

## PCMF3USB3S_3
designator U?
CLASS: IC
pins: A1 CH1_IN+ (in), A2 CH1_IN- (in), A3 CH2_IN+ (in), A4 CH2_IN- (in), A5 CH3_IN+ (in), A6 CH3_IN- (in), B1 GND_CH1 (power), B2 GND_CH2 (power), B3 GND_CH3 (power), C1 CH1_OUT+ (out), C2 CH1_OUT- (out), C3 CH2_OUT+ (out), C4 CH2_OUT- (out), C5 CH3_OUT+ (out), C6 CH3_OUT- (out)
text: CMF+ESD

## PCMF3USB3S_4
designator U?
CLASS: IC
pins: A1 CH1_IN+ (in), A2 CH1_IN- (in), A3 CH2_IN+ (in), A4 CH2_IN- (in), A5 CH3_IN+ (in), A6 CH3_IN- (in), B1 GND_CH1 (power), B2 GND_CH2 (power), B3 GND_CH3 (power), C1 CH1_OUT+ (out), C2 CH1_OUT- (out), C3 CH2_OUT+ (out), C4 CH2_OUT- (out), C5 CH3_OUT+ (out), C6 CH3_OUT- (out)
text: CMF+ESD

## PF8100_QFN_0
designator U?
SWAP_INFO: (S1+S2+S3); SPLIT_INST: TRUE; CLASS: IC
part A pins: 1 NC1, 14 TBBEN (in), 19 WDI (in), 20 EWARN (out), 21 ~{RESET}_MCU (oc), 22 PWRON (in), 23 STANDBY (in), 24 ~{INT} (oc), 29 FSOB (out), 39 XINTB (in), 42 PGOOD (oc), 44 NC2, 45 DGND (power), 48 SYNCIN (in), 49 SYNCOUT, 51 AGND (power), 52 AMUX (out), 53 VDDOTP (in), 54 VDDIO (power), 55 SCL (in), 56 SDA (io), 57 EP_GND (power)
part B pins: 15 LDO1OUT (out), 16 VSELECT (in), 17 LDO12IN (in), 18 LDO2OUT (out), 25 LDO3OUT (out), 26 LDO3IN (in), 27 LDO4IN (in), 28 LDO4OUT (out), 40 V1P5D (out), 41 V1P5A (out), 43 LDO2EN (in), 46 LICELL (in), 47 VSNVS (out), 50 VIN (power)
part C pins: 2 SW2FB (in), 3 SW1FB (in), 4 SW1IN (in), 5 SW1LX (out), 6 SW2LX (out), 7 SW2IN (in), 8 SW3IN (in), 9 SW3LX (out), 10 SW4LX (out), 11 SW4IN (in), 12 SW4FB (in), 13 SW3FB (in), 30 SW6FB (in), 31 SW5FB (in), 32 SW5IN (in), 33 SW5LX (out), 34 SW6LX (out), 35 SW6IN (in), 36 SW7LX (out), 37 SW7IN (in), 38 SW7FB (in)
part B text: LDO
part C text: DCDC

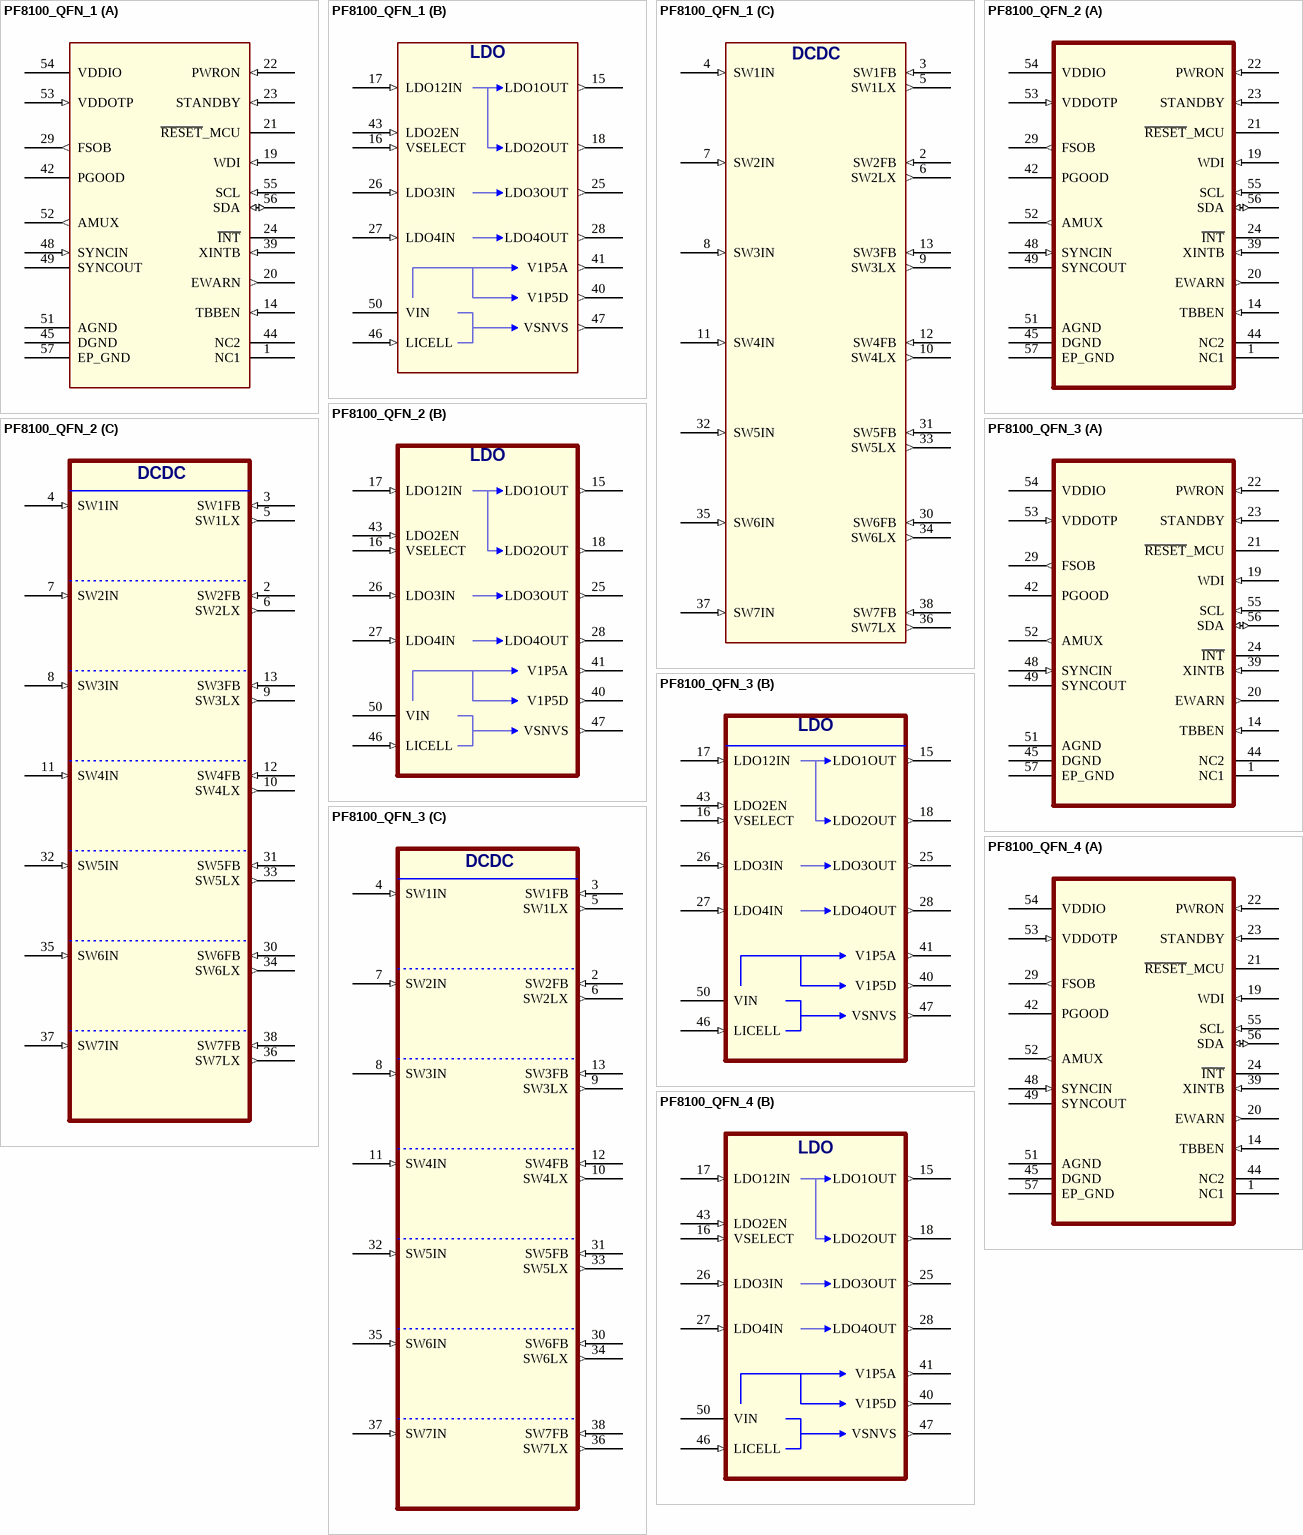
[diagram p9: symbols PF8100_QFN_1 to PF8100_QFN_4]

## PF8100_QFN_1
designator U?
SWAP_INFO: (S1+S2+S3); SPLIT_INST: TRUE; CLASS: IC
part A pins: 1 NC1, 14 TBBEN (in), 19 WDI (in), 20 EWARN (out), 21 ~{RESET}_MCU (oc), 22 PWRON (in), 23 STANDBY (in), 24 ~{INT} (oc), 29 FSOB (out), 39 XINTB (in), 42 PGOOD (oc), 44 NC2, 45 DGND (power), 48 SYNCIN (in), 49 SYNCOUT, 51 AGND (power), 52 AMUX (out), 53 VDDOTP (in), 54 VDDIO (power), 55 SCL (in), 56 SDA (io), 57 EP_GND (power)
part B pins: 15 LDO1OUT (out), 16 VSELECT (in), 17 LDO12IN (in), 18 LDO2OUT (out), 25 LDO3OUT (out), 26 LDO3IN (in), 27 LDO4IN (in), 28 LDO4OUT (out), 40 V1P5D (out), 41 V1P5A (out), 43 LDO2EN (in), 46 LICELL (in), 47 VSNVS (out), 50 VIN (power)
part C pins: 2 SW2FB (in), 3 SW1FB (in), 4 SW1IN (in), 5 SW1LX (out), 6 SW2LX (out), 7 SW2IN (in), 8 SW3IN (in), 9 SW3LX (out), 10 SW4LX (out), 11 SW4IN (in), 12 SW4FB (in), 13 SW3FB (in), 30 SW6FB (in), 31 SW5FB (in), 32 SW5IN (in), 33 SW5LX (out), 34 SW6LX (out), 35 SW6IN (in), 36 SW7LX (out), 37 SW7IN (in), 38 SW7FB (in)
part B text: LDO
part C text: DCDC

## PF8100_QFN_2
designator U?
SWAP_INFO: (S1+S2+S3); SPLIT_INST: TRUE; CLASS: IC
part A pins: 1 NC1, 14 TBBEN (in), 19 WDI (in), 20 EWARN (out), 21 ~{RESET}_MCU (oc), 22 PWRON (in), 23 STANDBY (in), 24 ~{INT} (oc), 29 FSOB (out), 39 XINTB (in), 42 PGOOD (oc), 44 NC2, 45 DGND (power), 48 SYNCIN (in), 49 SYNCOUT, 51 AGND (power), 52 AMUX (out), 53 VDDOTP (in), 54 VDDIO (power), 55 SCL (in), 56 SDA (io), 57 EP_GND (power)
part B pins: 15 LDO1OUT (out), 16 VSELECT (in), 17 LDO12IN (in), 18 LDO2OUT (out), 25 LDO3OUT (out), 26 LDO3IN (in), 27 LDO4IN (in), 28 LDO4OUT (out), 40 V1P5D (out), 41 V1P5A (out), 43 LDO2EN (in), 46 LICELL (in), 47 VSNVS (out), 50 VIN (power)
part C pins: 2 SW2FB (in), 3 SW1FB (in), 4 SW1IN (in), 5 SW1LX (out), 6 SW2LX (out), 7 SW2IN (in), 8 SW3IN (in), 9 SW3LX (out), 10 SW4LX (out), 11 SW4IN (in), 12 SW4FB (in), 13 SW3FB (in), 30 SW6FB (in), 31 SW5FB (in), 32 SW5IN (in), 33 SW5LX (out), 34 SW6LX (out), 35 SW6IN (in), 36 SW7LX (out), 37 SW7IN (in), 38 SW7FB (in)
part B text: LDO
part C text: DCDC

## PF8100_QFN_3
designator U?
SWAP_INFO: (S1+S2+S3); SPLIT_INST: TRUE; CLASS: IC
part A pins: 1 NC1, 14 TBBEN (in), 19 WDI (in), 20 EWARN (out), 21 ~{RESET}_MCU (oc), 22 PWRON (in), 23 STANDBY (in), 24 ~{INT} (oc), 29 FSOB (out), 39 XINTB (in), 42 PGOOD (oc), 44 NC2, 45 DGND (power), 48 SYNCIN (in), 49 SYNCOUT, 51 AGND (power), 52 AMUX (out), 53 VDDOTP (in), 54 VDDIO (power), 55 SCL (in), 56 SDA (io), 57 EP_GND (power)
part B pins: 15 LDO1OUT (out), 16 VSELECT (in), 17 LDO12IN (in), 18 LDO2OUT (out), 25 LDO3OUT (out), 26 LDO3IN (in), 27 LDO4IN (in), 28 LDO4OUT (out), 40 V1P5D (out), 41 V1P5A (out), 43 LDO2EN (in), 46 LICELL (in), 47 VSNVS (out), 50 VIN (power)
part C pins: 2 SW2FB (in), 3 SW1FB (in), 4 SW1IN (in), 5 SW1LX (out), 6 SW2LX (out), 7 SW2IN (in), 8 SW3IN (in), 9 SW3LX (out), 10 SW4LX (out), 11 SW4IN (in), 12 SW4FB (in), 13 SW3FB (in), 30 SW6FB (in), 31 SW5FB (in), 32 SW5IN (in), 33 SW5LX (out), 34 SW6LX (out), 35 SW6IN (in), 36 SW7LX (out), 37 SW7IN (in), 38 SW7FB (in)
part B text: LDO
part C text: DCDC

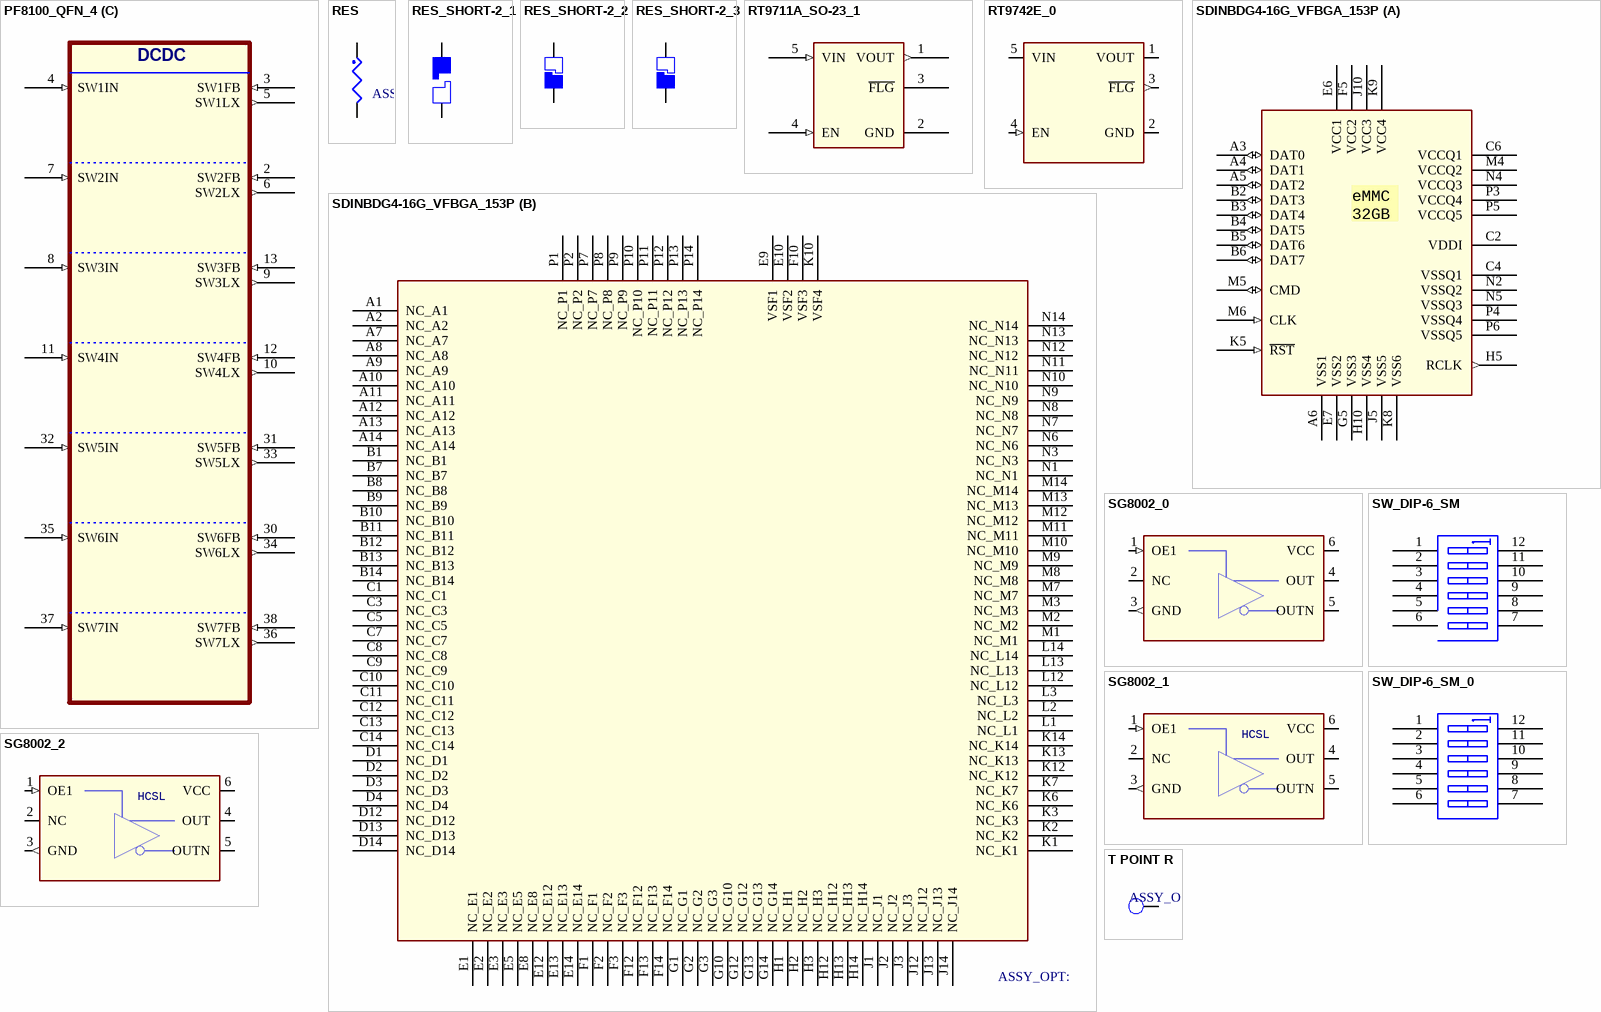
[diagram p10: symbols PF8100_QFN_4 to T POINT R]

## PF8100_QFN_4
designator U?
SWAP_INFO: (S1+S2+S3); SPLIT_INST: TRUE; CLASS: IC
part A pins: 1 NC1, 14 TBBEN (in), 19 WDI (in), 20 EWARN (out), 21 ~{RESET}_MCU (oc), 22 PWRON (in), 23 STANDBY (in), 24 ~{INT} (oc), 29 FSOB (out), 39 XINTB (in), 42 PGOOD (oc), 44 NC2, 45 DGND (power), 48 SYNCIN (in), 49 SYNCOUT, 51 AGND (power), 52 AMUX (out), 53 VDDOTP (in), 54 VDDIO (power), 55 SCL (in), 56 SDA (io), 57 EP_GND (power)
part B pins: 15 LDO1OUT (out), 16 VSELECT (in), 17 LDO12IN (in), 18 LDO2OUT (out), 25 LDO3OUT (out), 26 LDO3IN (in), 27 LDO4IN (in), 28 LDO4OUT (out), 40 V1P5D (out), 41 V1P5A (out), 43 LDO2EN (in), 46 LICELL (in), 47 VSNVS (out), 50 VIN (power)
part C pins: 2 SW2FB (in), 3 SW1FB (in), 4 SW1IN (in), 5 SW1LX (out), 6 SW2LX (out), 7 SW2IN (in), 8 SW3IN (in), 9 SW3LX (out), 10 SW4LX (out), 11 SW4IN (in), 12 SW4FB (in), 13 SW3FB (in), 30 SW6FB (in), 31 SW5FB (in), 32 SW5IN (in), 33 SW5LX (out), 34 SW6LX (out), 35 SW6IN (in), 36 SW7LX (out), 37 SW7IN (in), 38 SW7FB (in)
part B text: LDO
part C text: DCDC

## RES
designator R?
CLASS: DISCRETE
pins: 1, 2

## RES_SHORT-2_1
designator SH?
CLASS: DISCRETE
pins: 1, 2

## RES_SHORT-2_2
designator SH?
CLASS: DISCRETE
pins: 1, 2

## RES_SHORT-2_3
designator SH?
CLASS: DISCRETE
pins: 1, 2

## RT9711A_SO-23_1
designator U?
CLASS: IC
pins: 1 VOUT (out), 2 GND (power), 3 ~{FLG}, 4 EN (in), 5 VIN (in)

## RT9742E_0
designator U?
CLASS: IC
pins: 1 VOUT (power), 2 GND (power), 3 ~{FLG} (out), 4 EN (in), 5 VIN (power)

## SDINBDG4-16G_VFBGA_153P
designator U?
CLASS: IC
part A pins: A3 DAT0 (io), A4 DAT1 (io), A5 DAT2 (io), A6 VSS1 (power), B2 DAT3 (io), B3 DAT4 (io), B4 DAT5 (io), B5 DAT6 (io), B6 DAT7 (io), C2 VDDI (power), C4 VSSQ1 (power), C6 VCCQ1 (power), E6 VCC1 (power), E7 VSS2 (power), F5 VCC2 (power), G5 VSS3 (power), H5 RCLK (out), H10 VSS4 (power), J5 VSS5 (power), J10 VCC3 (power), K5 ~{RST} (in), K8 VSS6 (power), K9 VCC4 (power), M4 VCCQ2 (power), M5 CMD (io), M6 CLK (in), N2 VSSQ2 (power), N4 VCCQ3 (power), N5 VSSQ3 (power), P3 VCCQ4 (power), P4 VSSQ4 (power), P5 VCCQ5 (power), P6 VSSQ5 (power)
part B pins: A1 NC_A1, A2 NC_A2, A7 NC_A7, A8 NC_A8, A9 NC_A9, A10 NC_A10, A11 NC_A11, A12 NC_A12, A13 NC_A13, A14 NC_A14, B1 NC_B1, B7 NC_B7, B8 NC_B8, B9 NC_B9, B10 NC_B10, B11 NC_B11, B12 NC_B12, B13 NC_B13, B14 NC_B14, C1 NC_C1, C3 NC_C3, C5 NC_C5, C7 NC_C7, C8 NC_C8, C9 NC_C9, C10 NC_C10, C11 NC_C11, C12 NC_C12, C13 NC_C13, C14 NC_C14, D1 NC_D1, D2 NC_D2, D3 NC_D3, D4 NC_D4, D12 NC_D12, D13 NC_D13, D14 NC_D14, E1 NC_E1, E2 NC_E2, E3 NC_E3, E5 NC_E5, E8 NC_E8, E9 VSF1, E10 VSF2, E12 NC_E12, E13 NC_E13, E14 NC_E14, F1 NC_F1, F2 NC_F2, F3 NC_F3, F10 VSF3, F12 NC_F12, F13 NC_F13, F14 NC_F14, G1 NC_G1, G2 NC_G2, G3 NC_G3, G10 NC_G10, G12 NC_G12, G13 NC_G13, G14 NC_G14, H1 NC_H1, H2 NC_H2, H3 NC_H3, H12 NC_H12, H13 NC_H13, H14 NC_H14, J1 NC_J1, J2 NC_J2, J3 NC_J3, J12 NC_J12, J13 NC_J13, J14 NC_J14, K1 NC_K1, K2 NC_K2, K3 NC_K3, K6 NC_K6, K7 NC_K7, K10 VSF4, K12 NC_K12, K13 NC_K13, K14 NC_K14, L1 NC_L1, L2 NC_L2, L3 NC_L3, L12 NC_L12, L13 NC_L13, L14 NC_L14, M1 NC_M1, M2 NC_M2, M3 NC_M3, M7 NC_M7, M8 NC_M8, M9 NC_M9, M10 NC_M10, M11 NC_M11, M12 NC_M12, M13 NC_M13, M14 NC_M14, N1 NC_N1, N3 NC_N3, N6 NC_N6, N7 NC_N7, N8 NC_N8, N9 NC_N9, N10 NC_N10, N11 NC_N11, N12 NC_N12, N13 NC_N13, N14 NC_N14, P1 NC_P1, P2 NC_P2, P7 NC_P7, P8 NC_P8, P9 NC_P9, P10 NC_P10, P11 NC_P11, P12 NC_P12, P13 NC_P13, P14 NC_P14
part A text: eMMC / 32GB

## SG8002_0
designator Y?
CLASS: IC
pins: 1 OE1 (in), 2 NC (power), 3 GND (out), 4 OUT (power), 5 OUTN, 6 VCC

## SG8002_1
designator Y?
CLASS: IC
pins: 1 OE1 (in), 2 NC (power), 3 GND (out), 4 OUT (power), 5 OUTN, 6 VCC
text: HCSL

## SG8002_2
designator Y?
CLASS: IC
pins: 1 OE1 (in), 2 NC, 3 GND (out), 4 OUT (power), 5 OUTN, 6 VCC
text: HCSL

## SW_DIP-6_SM
designator SW?
CLASS: IC
pins: 1 A1, 2 A2, 3 A3, 4 A4, 5 A5, 6 A6, 7 B6, 8 B5, 9 B4, 10 B3, 11 B2, 12 B1

## SW_DIP-6_SM_0
designator SW?
CLASS: IC
pins: 1 A1, 2 A2, 3 A3, 4 A4, 5 A5, 6 A6, 7 B6, 8 B5, 9 B4, 10 B3, 11 B2, 12 B1

## T POINT R
designator TP?  (value not drawn)
CLASS: IC
pins: 1 TP

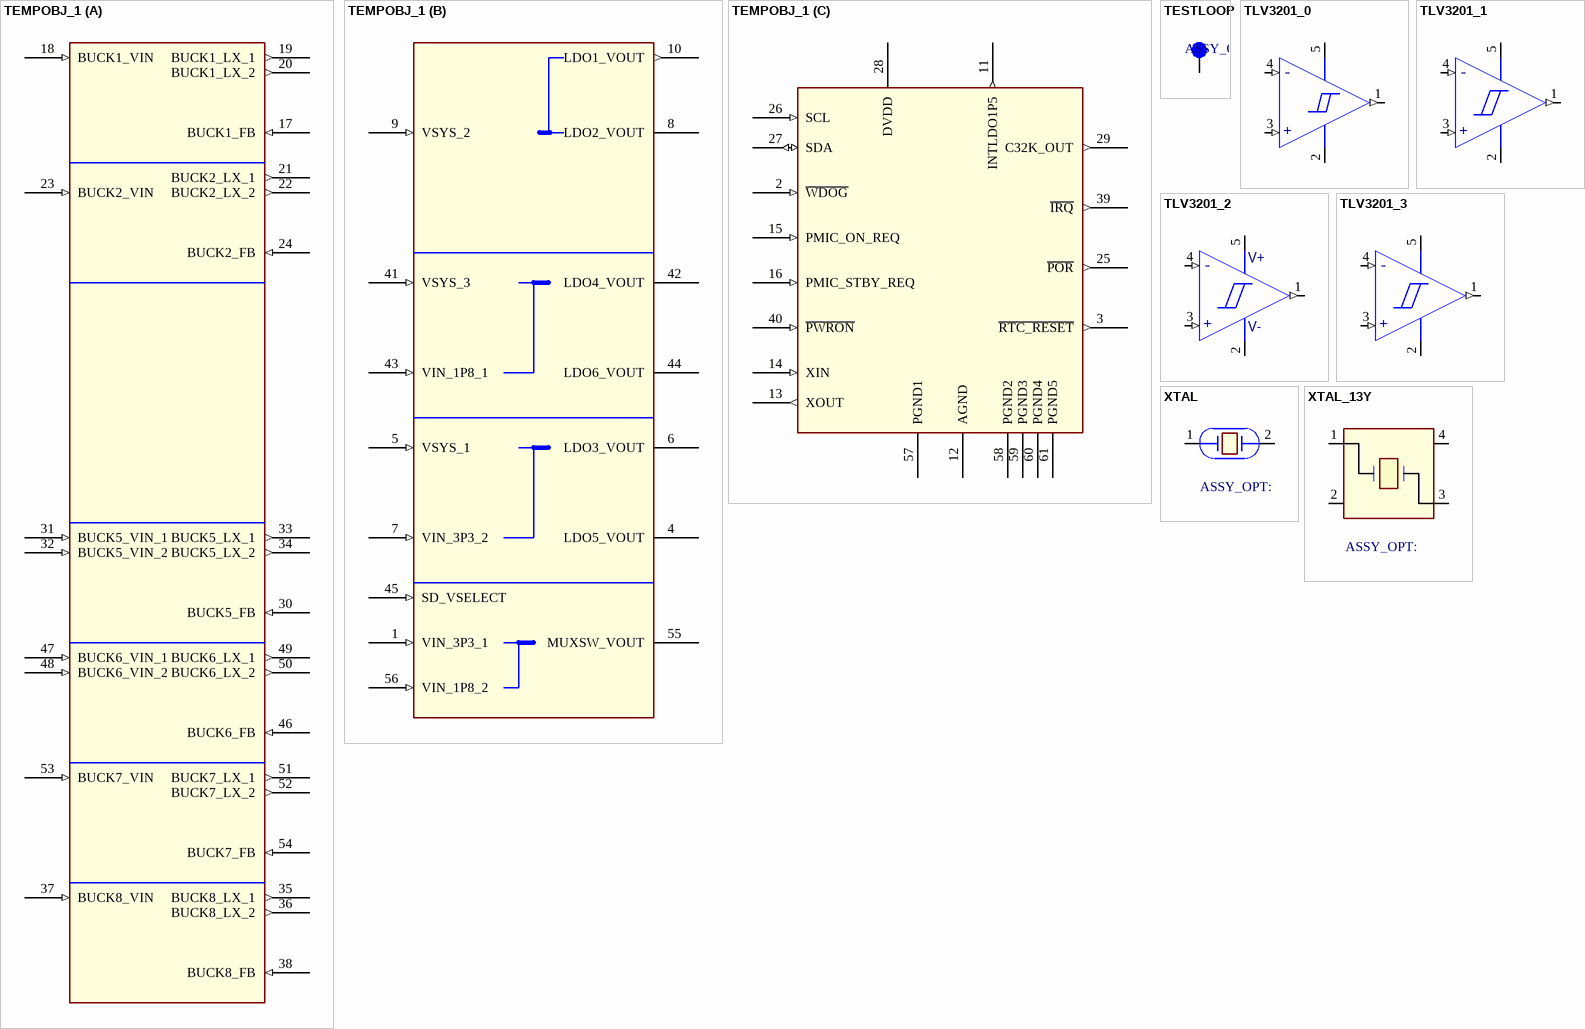
[diagram p11: symbols TEMPOBJ_1 to XTAL_13Y]

## TEMPOBJ_1
designator U?
CLASS: IC
footprint BD71837MWV
part A pins: 17 BUCK1_FB (in), 18 BUCK1_VIN (in), 19 BUCK1_LX_1 (out), 20 BUCK1_LX_2 (out), 21 BUCK2_LX_1 (out), 22 BUCK2_LX_2 (out), 23 BUCK2_VIN (in), 24 BUCK2_FB (in), 30 BUCK5_FB (in), 31 BUCK5_VIN_1 (in), 32 BUCK5_VIN_2 (in), 33 BUCK5_LX_1 (out), 34 BUCK5_LX_2 (out), 35 BUCK8_LX_1 (out), 36 BUCK8_LX_2 (out), 37 BUCK8_VIN (in), 38 BUCK8_FB (in), 46 BUCK6_FB (in), 47 BUCK6_VIN_1 (in), 48 BUCK6_VIN_2 (in), 49 BUCK6_LX_1 (out), 50 BUCK6_LX_2 (out), 51 BUCK7_LX_1 (out), 52 BUCK7_LX_2 (out), 53 BUCK7_VIN (in), 54 BUCK7_FB (in)
part B pins: 1 VIN_3P3_1 (in), 4 LDO5_VOUT (power), 5 VSYS_1 (in), 6 LDO3_VOUT (power), 7 VIN_3P3_2 (in), 8 LDO2_VOUT (power), 9 VSYS_2 (in), 10 LDO1_VOUT (out), 41 VSYS_3 (in), 42 LDO4_VOUT (power), 43 VIN_1P8_1 (in), 44 LDO6_VOUT (power), 45 SD_VSELECT (in), 55 MUXSW_VOUT (power), 56 VIN_1P8_2 (in)
part C pins: 2 ~{WDOG} (in), 3 ~{RTC_RESET} (out), 11 INTLDO1P5 (out), 12 AGND (power), 13 XOUT (out), 14 XIN (in), 15 PMIC_ON_REQ (in), 16 PMIC_STBY_REQ (in), 25 ~{POR} (out), 26 SCL (in), 27 SDA (io), 28 DVDD (power), 29 C32K_OUT (out), 39 ~{IRQ} (out), 40 ~{PWRON} (in), 57 PGND1 (power), 58 PGND2 (power), 59 PGND3 (power), 60 PGND4 (power), 61 PGND5 (power)

## TESTLOOP
designator TP?  (value not drawn)
CLASS: IO
pins: 1 Pin1

## TLV3201_0
designator U?
CLASS: IC
pins: 1 OUT (out), 2 GND (power), 3 IN+ (in), 4 IN- (in), 5 VCC (power)
text: -; +

## TLV3201_1
designator U?
CLASS: IC
pins: 1 OUT (out), 2 GND (power), 3 IN+ (in), 4 IN- (in), 5 VCC (power)
text: -; +

## TLV3201_2
designator U?
CLASS: IC
pins: 1 OUT (out), 2 GND (power), 3 IN+ (in), 4 IN- (in), 5 VCC (power)
text: V+; -; +; V-

## TLV3201_3
designator U?
CLASS: IC
pins: 1 OUT (out), 2 GND (power), 3 IN+ (in), 4 IN- (in), 5 VCC (power)
text: -; +

## XTAL
designator Y?
CLASS: IC
pins: 1, 2

## XTAL_13Y
designator Y?
CLASS: IC
pins: 1, 2, 3, 4